# Altium integrated library Motorola Microcontroller 32-Bit.IntLib: 337 symbols (part 21 of 29)
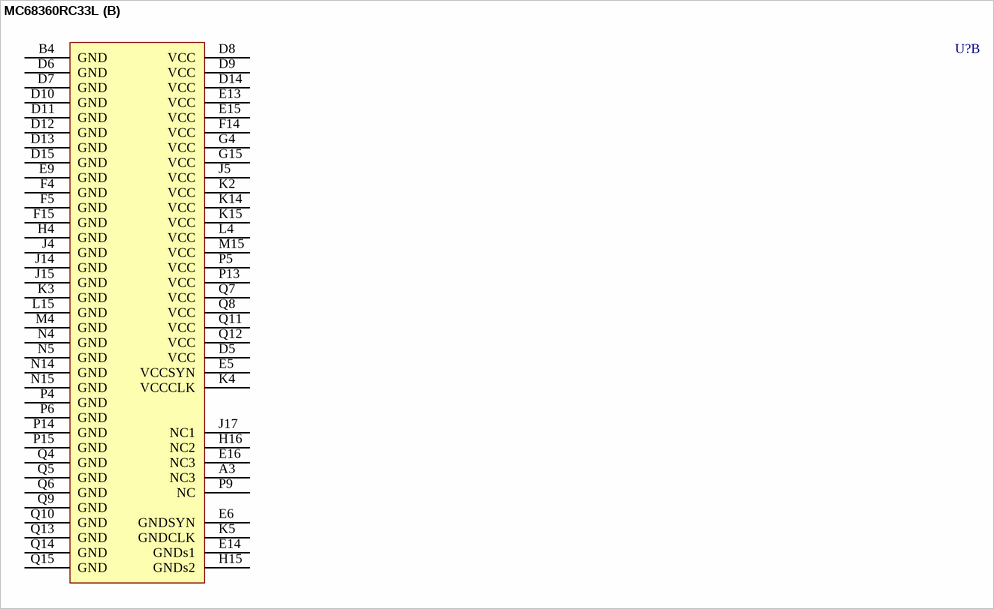
[diagram p259: symbol MC68360RC33L]

## MC68360RC33L
designator U?
Quad Integrated Communication Controller; Published: 21-Mar-2003; LatestRevisionDate: 06-Jun-2005; LatestRevisionNote: Stylized 3D Model Added.; DatasheetVersion: Jan-1995; PackageVersion: Jan-1995; PackageReference: PGA241; Publisher: Altium Limited; PackageDescription: 241-Pin Pin Grid Array 2.54 mm Pitch; ComponentLink1Description: Manufacturer Link; ComponentLink1URL: http://www.freescale.com/; ComponentLink2Description: Datasheet; ComponentLink2URL: http://www.freescale.com/files/32bit/doc/data_sheet/MC68360.pdf
footprint PGA241 (PGA, 241-Leads, Body 47x47mm, Pitch 2.54mm)
3D model MC68360-PGA241 (241-Pin Pin Grid Array 2.54 mm Pitch)
part A pins: A2 XTAL, A4 A26 (io), A5 A24 (io), A6 A21 (io), A7 A18 (io), A8 A15 (io), A9 A12 (io), A10 A11 (io), A11 A9 (io), A12 A6 (io), A13 A3 (io), A14 A2 (io), A15 ~{TRIS}/~{TS} (in), A16 ~{CS}6/~{RAS}6 (io), A17 ~{CS}3/~{RAS}3 (io), A18 ~{CS}0/~{RAS}0 (io), B1 SIZ0 (io), B2 A28/~{WE}3 (io), B3 MODCK0 (in), B5 A25 (io), B6 A22 (io), B7 A19 (io), B8 A16 (io), B9 A13 (io), B10 A10 (io), B11 A7 (io), B12 A5 (io), B13 A1 (io), B14 ~{IRQ}7 (in), B15 ~{CS}5/~{RAS}5 (io), B16 ~{CS}2/~{RAS}2 (io), B17 ~{CAS}2/~{IACK}3 (out), B18 ~{CAS}1/~{IACK}2 (out), C1 SIZ1 (io), C2 A29/~{WE}2 (io), C3 EXTAL (in), C4 MODCK1 (in), C5 A27 (io), C6 A23 (io), C7 A20 (io), C8 A17 (io), C9 A14 (io), C10 A8 (io), C11 A4 (io), C12 A0 (io), C13 ~{CS}7/~{RAS}7/~{IACK}7 (io), C14 ~{CS}4/~{RAS}4 (io), C15 ~{CS}1/~{RAS}1 (io), C16 ~{CAS}3/~{IACK}6 (out), C17 FREEZE/CONFIG2/~{MBARE} (out), C18 ~{DS}/TT1 (io), D1 FC2/TM2 (io), D2 FC1/TM1 (io), D3 A30/~{WE}1 (io), D4 XFC, D16 ~{CAS}0/~{IACK}1 (out), D17 R/~{W} (out), D18 ~{DSACK}0/~{TB}1 (io), E1 D30 (io), E2 FC3/TTO (io), E3 FC0/TM0 (io), E4 A31/~{WE}3 (io), E17 ~{DSACK}1/~{TA} (io), E18 PRTY3/16~{BM} (io), F1 D27 (io), F2 D29 (io), F3 D31 (io), F16 PRTY2/~{IOUT}0/~{RQOUT} (io), F17 PRTY1/~{IOUT}1 (io), F18 PRTY0/~{IOUT}2 (io), G1 D24 (io), G2 D26 (io), G3 D28 (io), G16 ~{IPIPE}0/BADD2/DSO (out), G17 ~{AS} (io), G18 ~{IPIPE}1/~{RAS1DD}/~{BCLRI} (io), H1 D21 (io), H2 D23 (io), H3 D25 (io), H17 ~{BCLRO}/CONFIG1/~{RAS2DD} (io), H18 ~{OE}/AMUX (out), J1 CLKO1 (out), J2 D20 (io), J3 D22 (io), J16 ~{IFETCH}/BADD3/DSI (io), J18 ~{BR} (in), K1 CLKO2 (out), K16 ~{IRQ}4/~{IOUT}1 (io), K17 ~{BGACK}/~{BB} (io), K18 ~{BG} (io), L1 D19 (io), L2 D18 (io), L3 D17 (io), L16 ~{TRST} (in), L17 ~{BKPT}/~{BKPTO}/DSCLK (io), L18 ~{IRQ}6/~{IOUT}2 (io), M1 D16 (io), M2 D15 (io), M3 D14 (io), M16 TDI (in), M17 TCK (in), M18 ~{RESETH} (io), N1 D13 (io), N2 D12 (io), N3 D11 (io), N16 ~{AVEC}/~{IACK}5/~{AVEC}0 (io), N17 TDO (hiz), N18 TMS (in), P1 D10 (io), P2 D9 (io), P3 D8 (io), P16 ~{HALT} (io), P17 ~{RMC}/CONFIG0/~{LOCK} (io), P18 ~{PERR} (out), Q1 D7 (io), Q2 D6 (io), Q3 D5 (io), Q16 ~{IRQ}5 (in), Q17 ~{BERR}/~{TEA} (io), Q18 ~{RESETS} (io), R1 D4 (io), R2 D3 (io), R3 D1 (io), R4 PA14/TIN4/BRGO4/CLK7 (io), R5 PA11/~{TOUT}2/CLK4 (io), R6 PA8/TIN1/L1RCLKA/BRGO1/CLK1 (io), R7 PA4/L1TXDB/RXD3 (io), R8 PA0/RXD1 (io), R9 PB14/L1SR3/~{L1RQB}/~{RTS}3 (io), R10 PB9/~{DACK}2/~{SMSYN}2 (io), R11 PB6/~{DONE}1/SMTXD1 (io), R12 PB3/BRGO4/SPIMISO(SPIRXD) (io), R13 PB0/~{RRJCT}1/~{SPISEL} (io), R14 PC8/~{SDACK}2/L1TSYNCB/~{CTS}3 (io), R15 PC4/~{CTS}1 (io), R16 PC0/L1ST1/~{RTS}1 (io), R17 ~{IRQ}3 (in), R18 ~{IRQ}1/~{IOUT}0/~{RQOUT} (io), S1 D2 (io), S2 D0 (io), S3 PA13/BRGCLK2/L1RCLKB/~{TOUT}3/~{CLK}6 (io), S4 PA10/TIN2/L1TCLKA/BRGO2/CLK3 (io), S5 PA7/L1RXDA/TXD4 (io), S6 PA5/L1RXDB/TXD3 (io), S7 PA1/TXD1 (io), S8 PB16/STRBO/BRGO3 (io), S9 PB13/L1ST2/~{RTS}2 (io), S10 PB10/L1CLKOB/SMTXD2 (io), S11 PB7/~{DONE}2/SMRXD1 (io), S12 PB4/~{DREQ}1/BRGO1 (io), S13 PB1/~{RSTRT}2/SPICLK (io), S14 PC10/~{SDACK}1/L1TSYNCA/~{CTS}4 (io), S15 PC7/~{TGATE}2/~{CD}2 (io), S16 PC3/L1ST4/~{L1RQA}/~{RTS}4 (io), S17 PC1/L1ST2/~{RTS}2 (io), S18 ~{IRQ}2 (in), T1 PA15/L1TCLKB/~{TOUT}4/CLKB (io), T2 PA12/TIN3/BRGO3/CLK5 (io), T3 PA9/BRGCLK1/~{TOUT}1/CLK2 (io), T4 PA6/L1TXDA/RXD4 (io), T5 PA3/TXD2 (io), T6 PA2/RXD2 (io), T7 PB17/STRBI/~{RSTRT}1 (io), T8 PB15/L1ST4/~{L1RQA}/~{RTS}4 (io), T9 PB12/L1ST1/~{RTS}1 (io), T10 PB11/L1CLKOA/SMRXD2 (io), T11 PB8/~{DREQ}2/~{SMSYN}1 (io), T12 PB5/~{DACK}1/BRGO2 (io), T13 PB2/~{RRJCT}2/SPIMOSI(SPITXD) (io), T14 PC11/L1RSYNCA/~{CD}4 (io), T15 PC9/L1RSYNCB/~{CD}3 (io), T16 PC6/~{CTS}2 (io), T17 PC5/~{TGATE}1/~{CD}1 (io), T18 PC2/L1ST3/~{L1RQB}/~{RTS}3 (io)
part B pins: A3 NC3, B4 GND (power), D5 VCC (power), D6 GND (power), D7 GND (power), D8 VCC (power), D9 VCC (power), D10 GND (power), D11 GND (power), D12 GND (power), D13 GND (power), D14 VCC (power), D15 GND (power), E5 VCCSYN (power), E6 GNDSYN (power), E9 GND (power), E13 VCC (power), E14 GNDs1 (power), E15 VCC (power), E16 NC3, F4 GND (power), F5 GND (power), F14 VCC (power), F15 GND (power), G4 VCC (power), G15 VCC (power), H4 GND (power), H15 GNDs2 (power), H16 NC2, J4 GND (power), J5 VCC (power), J14 GND (power), J15 GND (power), J17 NC1, K2 VCC (power), K3 GND (power), K4 VCCCLK (power), K5 GNDCLK (power), K14 VCC (power), K15 VCC (power), L4 VCC (power), L15 GND (power), M4 GND (power), M15 VCC (power), N4 GND (power), N5 GND (power), N14 GND (power), N15 GND (power), P4 GND (power), P5 VCC (power), P6 GND (power), P9 NC, P13 VCC (power), P14 GND (power), P15 GND (power), Q4 GND (power), Q5 GND (power), Q6 GND (power), Q7 VCC (power), Q8 VCC (power), Q9 GND (power), Q10 GND (power), Q11 VCC (power), Q12 VCC (power), Q13 GND (power), Q14 GND (power), Q15 GND (power)

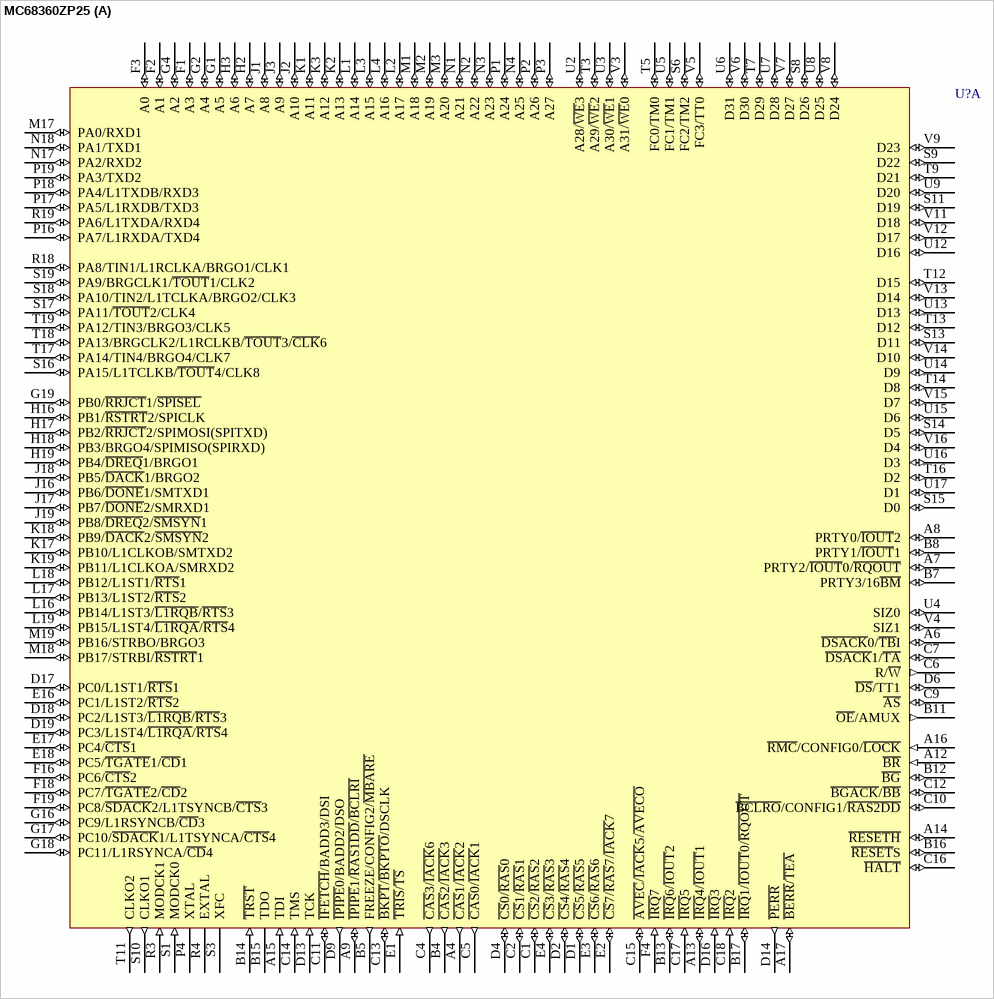
[diagram p175: symbol MC68360ZP25]

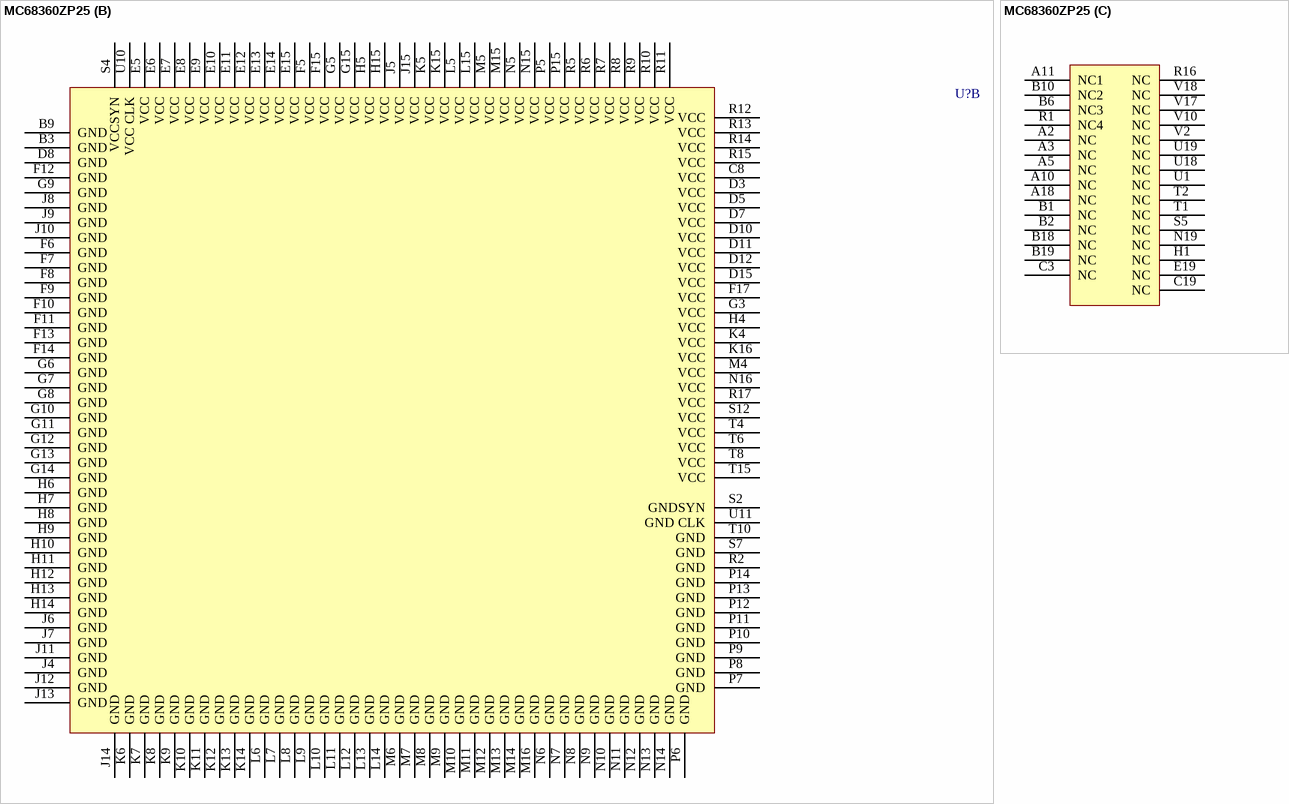
[diagram p176: symbol MC68360ZP25]

## MC68360ZP25
designator U?
Quad Integrated Communication Controller; Note: Footprint departs from the JEDEC JC-11 standard. The letter 's' is used to mark one of the rows.; Published: 21-Mar-2003; LatestRevisionDate: 13-Apr-2006; LatestRevisionNote: IPC-7351 Footprint Added.; DatasheetVersion: Jan-1995; PackageVersion: Sep-2002; PackageReference: 1103-01A; Publisher: Altium Limited; PackageDescription: 357-Ball Ball Grid Array 1.27 mm Pitch; ComponentLink1Description: Manufacturer Link; ComponentLink1URL: http://www.freescale.com/; ComponentLink2Description: Datasheet; ComponentLink2URL: http://www.freescale.com/files/32bit/doc/data_sheet/MC68360.pdf
footprint 1103-01 (BGA, 357-Leads, Body 25x25mm, Pitch 1.27mm)
3D model MC68360-1103-01 (357-Ball Ball Grid Array 1.27 mm Pitch)
part A pins: A4 ~{CAS}1/~{IACK}2 (out), A6 ~{DSACK}0/~{TB}I (io), A7 PRTY2/~{IOUT}0/~{RQOUT} (io), A8 PRTY0/~{IOUT}2 (io), A9 ~{IPIPE}1/~{RAS1DD}/~{BCLRI} (io), A12 ~{BR} (in), A13 ~{IRQ}4/~{IOUT}1 (io), A14 ~{RESETH} (io), A15 TDI (in), A16 ~{RMC}/CONFIG0/~{LOCK} (in), A17 ~{BERR}/~{TEA} (io), B4 ~{CAS}2/~{IACK}3 (out), B5 FREEZE/CONFIG2/~{MBARE} (out), B7 PRTY3/16~{BM} (io), B8 PRTY1/~{IOUT}1 (io), B11 ~{OE}/AMUX (out), B12 ~{BG} (io), B13 ~{IRQ}6/~{IOUT}2 (io), B14 ~{TRST} (in), B15 TDO (hiz), B16 ~{RESET}S (io), B17 ~{IRQ}1/~{IOUT}0/~{RQOUT} (io), C1 ~{CS}2/~{RAS}2 (io), C2 ~{CS}1/~{RAS}1 (io), C4 ~{CAS}3/~{IACK}6 (out), C5 ~{CAS}0/~{IACK}1 (out), C6 R/~{W} (out), C7 ~{DSACK}1/~{TA} (io), C9 ~{AS} (io), C10 ~{BCLRO}/CONFIG1/~{RAS2DD} (io), C11 ~{IFETCH}/BADD3/DSI (io), C12 ~{BGACK}/~{BB} (io), C13 ~{BKPT}/~{BKPTO}/DSCLK (io), C14 TMS (in), C15 ~{AVEC}/~{IACK}5/~{AVECO} (io), C16 ~{HALT} (io), C17 ~{IRQ}5 (in), C18 ~{IRQ}2 (in), D1 ~{CS}5/~{RAS}5 (io), D2 ~{CS}4/~{RAS}4 (io), D4 ~{CS}0/~{RAS}0 (io), D6 ~{DS}/TT1 (io), D9 ~{IPIPE}0/BADD2/DSO (out), D13 TCK (in), D14 ~{PERR} (out), D16 ~{IRQ}3 (in), D17 PC0/L1ST1/~{RTS}1 (io), D18 PC2/L1ST3/~{L1RQB}/~{RTS}3 (io), D19 PC3/L1ST4/~{L1RQA}/~{RTS}4 (io), E1 ~{TRIS}/~{TS} (in), E2 ~{CS}7/~{RAS}7/~{IACK}7 (io), E3 ~{CS}6/~{RAS}6 (io), E4 ~{CS}3/~{RAS}3 (io), E16 PC1/L1ST2/~{RTS}2 (io), E17 PC4/~{CTS}1 (io), E18 PC5/~{TGATE}1/~{CD}1 (io), F1 A3 (io), F2 A1 (io), F3 A0 (io), F4 ~{IRQ}7 (in), F16 PC6/~{CTS}2 (io), F18 PC7/~{TGATE}2/~{CD}2 (io), F19 PC8/~{SDACK}2/L1TSYNCB/~{CTS}3 (io), G1 A5 (io), G2 A4 (io), G4 A2 (io), G16 PC9/L1RSYNCB/~{CD}3 (io), G17 PC10/~{SDACK}1/L1TSYNCA/~{CTS}4 (io), G18 PC11/L1RSYNCA/~{CD}4 (io), G19 PB0/~{RRJCT}1/~{SPISEL} (io), H2 A7 (io), H3 A6 (io), H16 PB1/~{RSTRT}2/SPICLK (io), H17 PB2/~{RRJCT}2/SPIMOSI(SPITXD) (io), H18 PB3/BRGO4/SPIMISO(SPIRXD) (io), H19 PB4/~{DREQ}1/BRGO1 (io), J1 A8 (io), J2 A10 (io), J3 A9 (io), J16 PB6/~{DONE}1/SMTXD1 (io), J17 PB7/~{DONE}2/SMRXD1 (io), J18 PB5/~{DACK}1/BRGO2 (io), J19 PB8/~{DREQ}2/~{SMSYN}1 (io), K1 A11 (io), K2 A13 (io), K3 A12 (io), K17 PB10/L1CLKOB/SMTXD2 (io), K18 PB9/~{DACK}2/~{SMSYN}2 (io), K19 PB11/L1CLKOA/SMRXD2 (io), L1 A14 (io), L2 A17 (io), L3 A15 (io), L4 A16 (io), L16 PB14/L1ST3/~{L1RQB}/~{RTS}3 (io), L17 PB13/L1ST2/~{RTS}2 (io), L18 PB12/L1ST1/~{RTS}1 (io), L19 PB15/L1ST4/~{L1RQA}/~{RTS}4 (io), M1 A18 (io), M2 A19 (io), M3 A20 (io), M17 PA0/RXD1 (io), M18 PB17/STRBI/~{RSTRT}1 (io), M19 PB16/STRBO/BRGO3 (io), N1 A21 (io), N2 A22 (io), N3 A23 (io), N4 A25 (io), N17 PA2/RXD2 (io), N18 PA1/TXD1 (io), P1 A24 (io), P2 A26 (io), P3 A27 (io), P4 XTAL, P16 PA7/L1RXDA/TXD4 (io), P17 PA5/L1RXDB/TXD3 (io), P18 PA4/L1TXDB/RXD3 (io), P19 PA3/TXD2 (io), R3 MODCK1 (in), R4 EXTAL, R18 PA8/TIN1/L1RCLKA/BRGO1/CLK1 (io), R19 PA6/L1TXDA/RXD4 (io), S1 MODCK0 (in), S3 XFC, S6 FC2/TM2 (io), S8 D26 (io), S9 D22 (io), S10 CLKO1 (out), S11 D19 (io), S13 D11 (io), S14 D5 (io), S15 D0 (io), S16 PA15/L1TCLKB/~{TOUT}4/CLK8 (io), S17 PA11/~{TOUT}2/CLK4 (io), S18 PA10/TIN2/L1TCLKA/BRGO2/CLK3 (io), S19 PA9/BRGCLK1/~{TOUT}1/CLK2 (io), T3 A29/~{WE}2 (io), T5 FC0/TM0 (io), T7 D29 (io), T9 D21 (io), T11 CLKO2 (out), T12 D15 (io), T13 D12 (io), T14 D8 (io), T16 D2 (io), T17 PA14/TIN4/BRGO4/CLK7 (io), T18 PA13/BRGCLK2/L1RCLKB/~{TOUT}3/~{CLK}6 (io), T19 PA12/TIN3/BRGO3/CLK5 (io), U2 A28/~{WE}3 (io), U3 A30/~{WE}1 (io), U4 SIZ0 (io), U5 FC1/TM1 (io), U6 D31 (io), U7 D28 (io), U8 D25 (io), U9 D20 (io), U12 D16 (io), U13 D13 (io), U14 D9 (io), U15 D6 (io), U16 D3 (io), U17 D1 (io), V3 A31/~{WE}0 (io), V4 SIZ1 (io), V5 FC3/TT0 (io), V6 D30 (io), V7 D27 (io), V8 D24 (io), V9 D23 (io), V11 D18 (io), V12 D17 (io), V13 D14 (io), V14 D10 (io), V15 D7 (io), V16 D4 (io)
part B pins: B3 GND (power), B9 GND (power), C8 VCC (power), D3 VCC (power), D5 VCC (power), D7 VCC (power), D8 GND (power), D10 VCC (power), D11 VCC (power), D12 VCC (power), D15 VCC (power), E5 VCC (power), E6 VCC (power), E7 VCC (power), E8 VCC (power), E9 VCC (power), E10 VCC (power), E11 VCC (power), E12 VCC (power), E13 VCC (power), E14 VCC (power), E15 VCC (power), F5 VCC (power), F6 GND (power), F7 GND (power), F8 GND (power), F9 GND (power), F10 GND (power), F11 GND (power), F12 GND (power), F13 GND (power), F14 GND (power), F15 VCC (power), F17 VCC (power), G3 VCC (power), G5 VCC (power), G6 GND (power), G7 GND (power), G8 GND (power), G9 GND (power), G10 GND (power), G11 GND (power), G12 GND (power), G13 GND (power), G14 GND (power), G15 VCC (power), H4 VCC (power), H5 VCC (power), H6 GND (power), H7 GND (power), H8 GND (power), H9 GND (power), H10 GND (power), H11 GND (power), H12 GND (power), H13 GND (power), H14 GND (power), H15 VCC (power), J4 GND (power), J5 VCC (power), J6 GND (power), J7 GND (power), J8 GND (power), J9 GND (power), J10 GND (power), J11 GND (power), J12 GND (power), J13 GND (power), J14 GND (power), J15 VCC (power), K4 VCC (power), K5 VCC (power), K6 GND (power), K7 GND (power), K8 GND (power), K9 GND (power), K10 GND (power), K11 GND (power), K12 GND (power), K13 GND (power), K14 GND (power), K15 VCC (power), K16 VCC (power), L5 VCC (power), L6 GND (power), L7 GND (power), L8 GND (power), L9 GND (power), L10 GND (power), L11 GND (power), L12 GND (power), L13 GND (power), L14 GND (power), L15 VCC (power), M4 VCC (power), M5 VCC (power), M6 GND (power), M7 GND (power), M8 GND (power), M9 GND (power), M10 GND (power), M11 GND (power), M12 GND (power), M13 GND (power), M14 GND (power), M15 VCC (power), M16 GND (power), N5 VCC (power), N6 GND (power), N7 GND (power), N8 GND (power), N9 GND (power), N10 GND (power), N11 GND (power), N12 GND (power), N13 GND (power), N14 GND (power), N15 VCC (power), N16 VCC (power), P5 VCC (power), P6 GND (power), P7 GND (power), P8 GND (power), P9 GND (power), P10 GND (power), P11 GND (power), P12 GND (power), P13 GND (power), P14 GND (power), P15 VCC (power), R2 GND (power), R5 VCC (power), R6 VCC (power), R7 VCC (power), R8 VCC (power), R9 VCC (power), R10 VCC (power), R11 VCC (power), R12 VCC (power), R13 VCC (power), R14 VCC (power), R15 VCC (power), R17 VCC (power), S2 GNDSYN (power), S4 VCCSYN (power), S7 GND (power), S12 VCC (power), T4 VCC (power), T6 VCC (power), T8 VCC (power), T10 GND (power), T15 VCC (power), U10 VCC CLK (power), U11 GND CLK (power)
part C pins: A2 NC, A3 NC, A5 NC, A10 NC, A11 NC1, A18 NC, B1 NC, B2 NC, B6 NC3, B10 NC2, B18 NC, B19 NC, C3 NC, C19 NC, E19 NC, H1 NC, N19 NC, R1 NC4, R16 NC, S5 NC, T1 NC, T2 NC, U1 NC, U18 NC, U19 NC, V2 NC, V10 NC, V17 NC, V18 NC

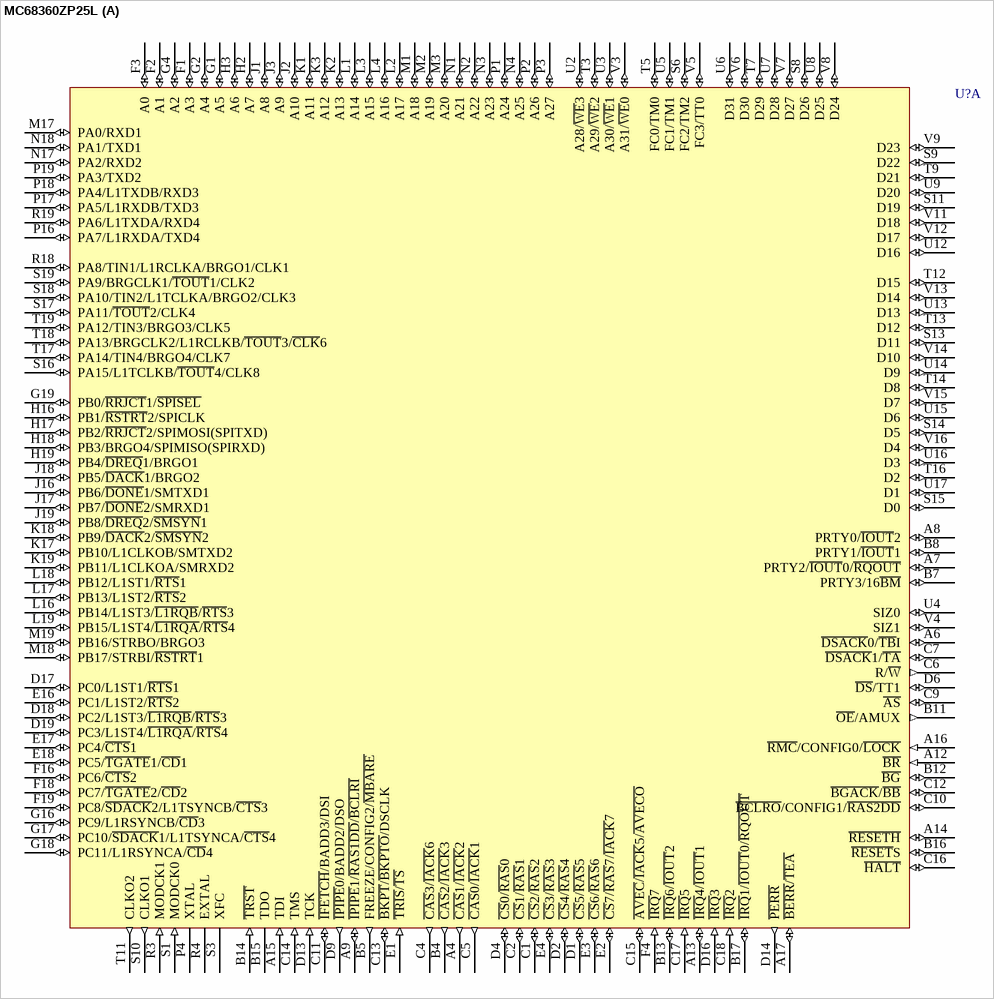
[diagram p177: symbol MC68360ZP25L]

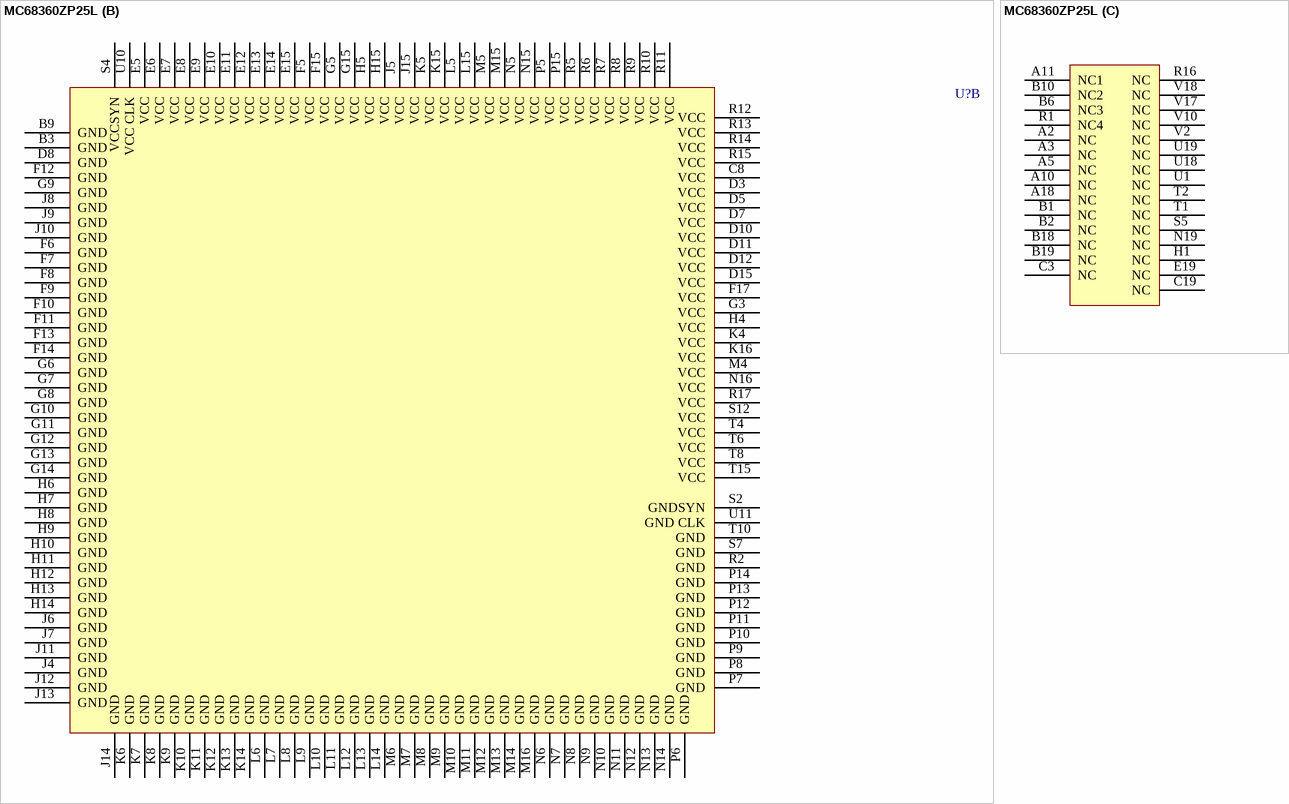
[diagram p178: symbol MC68360ZP25L]

## MC68360ZP25L
designator U?
Quad Integrated Communication Controller; Note: Footprint departs from the JEDEC JC-11 standard. The letter 's' is used to mark one of the rows.; Published: 21-Mar-2003; LatestRevisionDate: 13-Apr-2006; LatestRevisionNote: IPC-7351 Footprint Added.; DatasheetVersion: Jan-1995; PackageVersion: Sep-2002; PackageReference: 1103-01A; Publisher: Altium Limited; PackageDescription: 357-Ball Ball Grid Array 1.27 mm Pitch; ComponentLink1Description: Manufacturer Link; ComponentLink1URL: http://www.freescale.com/; ComponentLink2Description: Datasheet; ComponentLink2URL: http://www.freescale.com/files/32bit/doc/data_sheet/MC68360.pdf
footprint 1103-01 (BGA, 357-Leads, Body 25x25mm, Pitch 1.27mm)
3D model MC68360-1103-01 (357-Ball Ball Grid Array 1.27 mm Pitch)
part A pins: A4 ~{CAS}1/~{IACK}2 (out), A6 ~{DSACK}0/~{TB}I (io), A7 PRTY2/~{IOUT}0/~{RQOUT} (io), A8 PRTY0/~{IOUT}2 (io), A9 ~{IPIPE}1/~{RAS1DD}/~{BCLRI} (io), A12 ~{BR} (in), A13 ~{IRQ}4/~{IOUT}1 (io), A14 ~{RESETH} (io), A15 TDI (in), A16 ~{RMC}/CONFIG0/~{LOCK} (in), A17 ~{BERR}/~{TEA} (io), B4 ~{CAS}2/~{IACK}3 (out), B5 FREEZE/CONFIG2/~{MBARE} (out), B7 PRTY3/16~{BM} (io), B8 PRTY1/~{IOUT}1 (io), B11 ~{OE}/AMUX (out), B12 ~{BG} (io), B13 ~{IRQ}6/~{IOUT}2 (io), B14 ~{TRST} (in), B15 TDO (hiz), B16 ~{RESET}S (io), B17 ~{IRQ}1/~{IOUT}0/~{RQOUT} (io), C1 ~{CS}2/~{RAS}2 (io), C2 ~{CS}1/~{RAS}1 (io), C4 ~{CAS}3/~{IACK}6 (out), C5 ~{CAS}0/~{IACK}1 (out), C6 R/~{W} (out), C7 ~{DSACK}1/~{TA} (io), C9 ~{AS} (io), C10 ~{BCLRO}/CONFIG1/~{RAS2DD} (io), C11 ~{IFETCH}/BADD3/DSI (io), C12 ~{BGACK}/~{BB} (io), C13 ~{BKPT}/~{BKPTO}/DSCLK (io), C14 TMS (in), C15 ~{AVEC}/~{IACK}5/~{AVECO} (io), C16 ~{HALT} (io), C17 ~{IRQ}5 (in), C18 ~{IRQ}2 (in), D1 ~{CS}5/~{RAS}5 (io), D2 ~{CS}4/~{RAS}4 (io), D4 ~{CS}0/~{RAS}0 (io), D6 ~{DS}/TT1 (io), D9 ~{IPIPE}0/BADD2/DSO (out), D13 TCK (in), D14 ~{PERR} (out), D16 ~{IRQ}3 (in), D17 PC0/L1ST1/~{RTS}1 (io), D18 PC2/L1ST3/~{L1RQB}/~{RTS}3 (io), D19 PC3/L1ST4/~{L1RQA}/~{RTS}4 (io), E1 ~{TRIS}/~{TS} (in), E2 ~{CS}7/~{RAS}7/~{IACK}7 (io), E3 ~{CS}6/~{RAS}6 (io), E4 ~{CS}3/~{RAS}3 (io), E16 PC1/L1ST2/~{RTS}2 (io), E17 PC4/~{CTS}1 (io), E18 PC5/~{TGATE}1/~{CD}1 (io), F1 A3 (io), F2 A1 (io), F3 A0 (io), F4 ~{IRQ}7 (in), F16 PC6/~{CTS}2 (io), F18 PC7/~{TGATE}2/~{CD}2 (io), F19 PC8/~{SDACK}2/L1TSYNCB/~{CTS}3 (io), G1 A5 (io), G2 A4 (io), G4 A2 (io), G16 PC9/L1RSYNCB/~{CD}3 (io), G17 PC10/~{SDACK}1/L1TSYNCA/~{CTS}4 (io), G18 PC11/L1RSYNCA/~{CD}4 (io), G19 PB0/~{RRJCT}1/~{SPISEL} (io), H2 A7 (io), H3 A6 (io), H16 PB1/~{RSTRT}2/SPICLK (io), H17 PB2/~{RRJCT}2/SPIMOSI(SPITXD) (io), H18 PB3/BRGO4/SPIMISO(SPIRXD) (io), H19 PB4/~{DREQ}1/BRGO1 (io), J1 A8 (io), J2 A10 (io), J3 A9 (io), J16 PB6/~{DONE}1/SMTXD1 (io), J17 PB7/~{DONE}2/SMRXD1 (io), J18 PB5/~{DACK}1/BRGO2 (io), J19 PB8/~{DREQ}2/~{SMSYN}1 (io), K1 A11 (io), K2 A13 (io), K3 A12 (io), K17 PB10/L1CLKOB/SMTXD2 (io), K18 PB9/~{DACK}2/~{SMSYN}2 (io), K19 PB11/L1CLKOA/SMRXD2 (io), L1 A14 (io), L2 A17 (io), L3 A15 (io), L4 A16 (io), L16 PB14/L1ST3/~{L1RQB}/~{RTS}3 (io), L17 PB13/L1ST2/~{RTS}2 (io), L18 PB12/L1ST1/~{RTS}1 (io), L19 PB15/L1ST4/~{L1RQA}/~{RTS}4 (io), M1 A18 (io), M2 A19 (io), M3 A20 (io), M17 PA0/RXD1 (io), M18 PB17/STRBI/~{RSTRT}1 (io), M19 PB16/STRBO/BRGO3 (io), N1 A21 (io), N2 A22 (io), N3 A23 (io), N4 A25 (io), N17 PA2/RXD2 (io), N18 PA1/TXD1 (io), P1 A24 (io), P2 A26 (io), P3 A27 (io), P4 XTAL, P16 PA7/L1RXDA/TXD4 (io), P17 PA5/L1RXDB/TXD3 (io), P18 PA4/L1TXDB/RXD3 (io), P19 PA3/TXD2 (io), R3 MODCK1 (in), R4 EXTAL, R18 PA8/TIN1/L1RCLKA/BRGO1/CLK1 (io), R19 PA6/L1TXDA/RXD4 (io), S1 MODCK0 (in), S3 XFC, S6 FC2/TM2 (io), S8 D26 (io), S9 D22 (io), S10 CLKO1 (out), S11 D19 (io), S13 D11 (io), S14 D5 (io), S15 D0 (io), S16 PA15/L1TCLKB/~{TOUT}4/CLK8 (io), S17 PA11/~{TOUT}2/CLK4 (io), S18 PA10/TIN2/L1TCLKA/BRGO2/CLK3 (io), S19 PA9/BRGCLK1/~{TOUT}1/CLK2 (io), T3 A29/~{WE}2 (io), T5 FC0/TM0 (io), T7 D29 (io), T9 D21 (io), T11 CLKO2 (out), T12 D15 (io), T13 D12 (io), T14 D8 (io), T16 D2 (io), T17 PA14/TIN4/BRGO4/CLK7 (io), T18 PA13/BRGCLK2/L1RCLKB/~{TOUT}3/~{CLK}6 (io), T19 PA12/TIN3/BRGO3/CLK5 (io), U2 A28/~{WE}3 (io), U3 A30/~{WE}1 (io), U4 SIZ0 (io), U5 FC1/TM1 (io), U6 D31 (io), U7 D28 (io), U8 D25 (io), U9 D20 (io), U12 D16 (io), U13 D13 (io), U14 D9 (io), U15 D6 (io), U16 D3 (io), U17 D1 (io), V3 A31/~{WE}0 (io), V4 SIZ1 (io), V5 FC3/TT0 (io), V6 D30 (io), V7 D27 (io), V8 D24 (io), V9 D23 (io), V11 D18 (io), V12 D17 (io), V13 D14 (io), V14 D10 (io), V15 D7 (io), V16 D4 (io)
part B pins: B3 GND (power), B9 GND (power), C8 VCC (power), D3 VCC (power), D5 VCC (power), D7 VCC (power), D8 GND (power), D10 VCC (power), D11 VCC (power), D12 VCC (power), D15 VCC (power), E5 VCC (power), E6 VCC (power), E7 VCC (power), E8 VCC (power), E9 VCC (power), E10 VCC (power), E11 VCC (power), E12 VCC (power), E13 VCC (power), E14 VCC (power), E15 VCC (power), F5 VCC (power), F6 GND (power), F7 GND (power), F8 GND (power), F9 GND (power), F10 GND (power), F11 GND (power), F12 GND (power), F13 GND (power), F14 GND (power), F15 VCC (power), F17 VCC (power), G3 VCC (power), G5 VCC (power), G6 GND (power), G7 GND (power), G8 GND (power), G9 GND (power), G10 GND (power), G11 GND (power), G12 GND (power), G13 GND (power), G14 GND (power), G15 VCC (power), H4 VCC (power), H5 VCC (power), H6 GND (power), H7 GND (power), H8 GND (power), H9 GND (power), H10 GND (power), H11 GND (power), H12 GND (power), H13 GND (power), H14 GND (power), H15 VCC (power), J4 GND (power), J5 VCC (power), J6 GND (power), J7 GND (power), J8 GND (power), J9 GND (power), J10 GND (power), J11 GND (power), J12 GND (power), J13 GND (power), J14 GND (power), J15 VCC (power), K4 VCC (power), K5 VCC (power), K6 GND (power), K7 GND (power), K8 GND (power), K9 GND (power), K10 GND (power), K11 GND (power), K12 GND (power), K13 GND (power), K14 GND (power), K15 VCC (power), K16 VCC (power), L5 VCC (power), L6 GND (power), L7 GND (power), L8 GND (power), L9 GND (power), L10 GND (power), L11 GND (power), L12 GND (power), L13 GND (power), L14 GND (power), L15 VCC (power), M4 VCC (power), M5 VCC (power), M6 GND (power), M7 GND (power), M8 GND (power), M9 GND (power), M10 GND (power), M11 GND (power), M12 GND (power), M13 GND (power), M14 GND (power), M15 VCC (power), M16 GND (power), N5 VCC (power), N6 GND (power), N7 GND (power), N8 GND (power), N9 GND (power), N10 GND (power), N11 GND (power), N12 GND (power), N13 GND (power), N14 GND (power), N15 VCC (power), N16 VCC (power), P5 VCC (power), P6 GND (power), P7 GND (power), P8 GND (power), P9 GND (power), P10 GND (power), P11 GND (power), P12 GND (power), P13 GND (power), P14 GND (power), P15 VCC (power), R2 GND (power), R5 VCC (power), R6 VCC (power), R7 VCC (power), R8 VCC (power), R9 VCC (power), R10 VCC (power), R11 VCC (power), R12 VCC (power), R13 VCC (power), R14 VCC (power), R15 VCC (power), R17 VCC (power), S2 GNDSYN (power), S4 VCCSYN (power), S7 GND (power), S12 VCC (power), T4 VCC (power), T6 VCC (power), T8 VCC (power), T10 GND (power), T15 VCC (power), U10 VCC CLK (power), U11 GND CLK (power)
part C pins: A2 NC, A3 NC, A5 NC, A10 NC, A11 NC1, A18 NC, B1 NC, B2 NC, B6 NC3, B10 NC2, B18 NC, B19 NC, C3 NC, C19 NC, E19 NC, H1 NC, N19 NC, R1 NC4, R16 NC, S5 NC, T1 NC, T2 NC, U1 NC, U18 NC, U19 NC, V2 NC, V10 NC, V17 NC, V18 NC

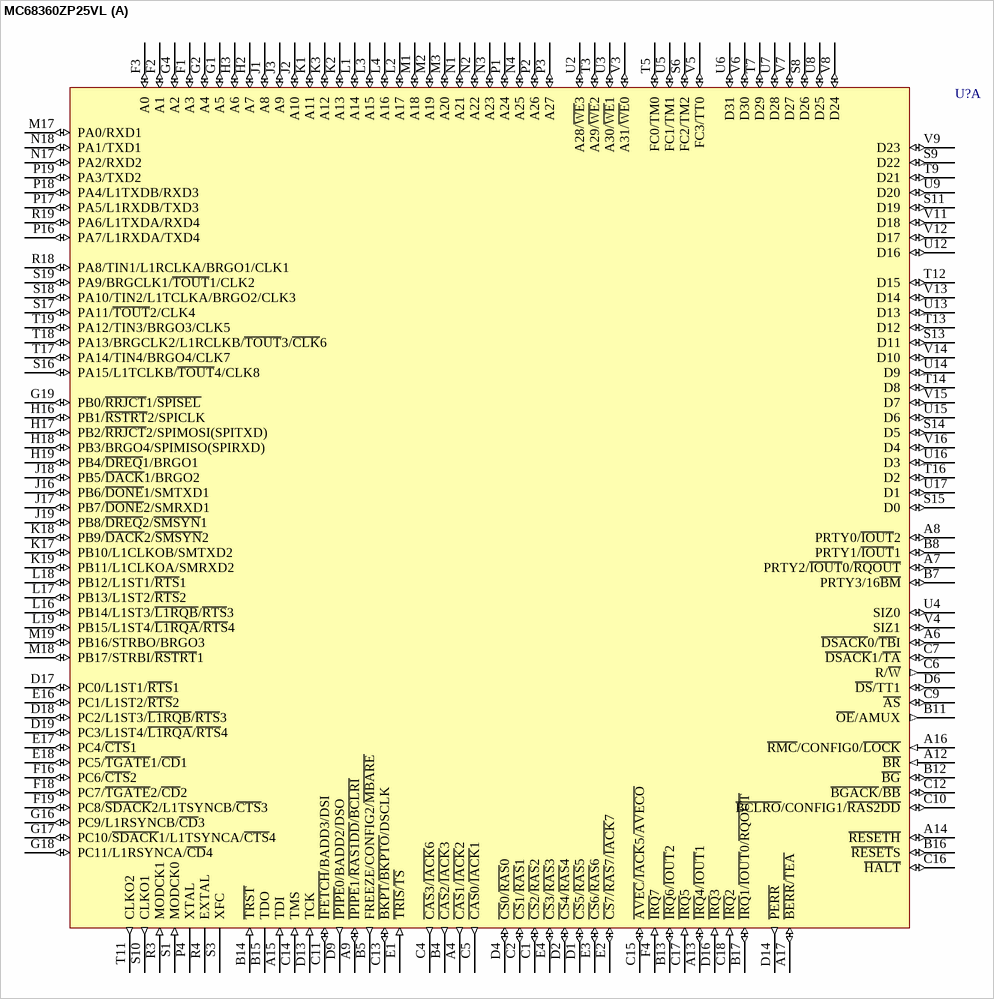
[diagram p179: symbol MC68360ZP25VL]

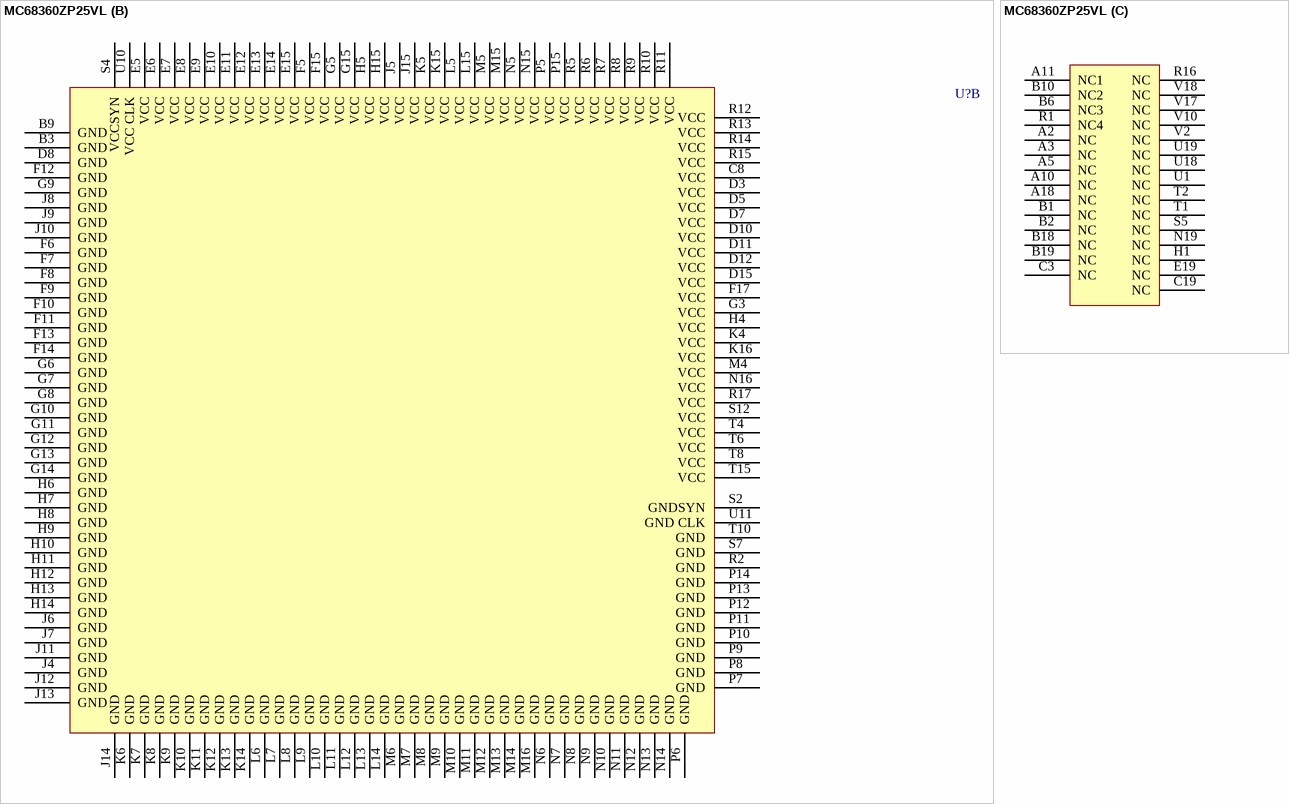
[diagram p180: symbol MC68360ZP25VL]

## MC68360ZP25VL
designator U?
Quad Integrated Communication Controller; Note: Footprint departs from the JEDEC JC-11 standard. The letter 's' is used to mark one of the rows.; Published: 21-Mar-2003; LatestRevisionDate: 13-Apr-2006; LatestRevisionNote: IPC-7351 Footprint Added.; DatasheetVersion: Jan-1995; PackageVersion: Sep-2002; PackageReference: 1103-01A; Publisher: Altium Limited; PackageDescription: 357-Ball Ball Grid Array 1.27 mm Pitch; ComponentLink1Description: Manufacturer Link; ComponentLink1URL: http://www.freescale.com/; ComponentLink2Description: Datasheet; ComponentLink2URL: http://www.freescale.com/files/32bit/doc/data_sheet/MC68360.pdf
footprint 1103-01 (BGA, 357-Leads, Body 25x25mm, Pitch 1.27mm)
3D model MC68360-1103-01 (357-Ball Ball Grid Array 1.27 mm Pitch)
part A pins: A4 ~{CAS}1/~{IACK}2 (out), A6 ~{DSACK}0/~{TB}I (io), A7 PRTY2/~{IOUT}0/~{RQOUT} (io), A8 PRTY0/~{IOUT}2 (io), A9 ~{IPIPE}1/~{RAS1DD}/~{BCLRI} (io), A12 ~{BR} (in), A13 ~{IRQ}4/~{IOUT}1 (io), A14 ~{RESETH} (io), A15 TDI (in), A16 ~{RMC}/CONFIG0/~{LOCK} (in), A17 ~{BERR}/~{TEA} (io), B4 ~{CAS}2/~{IACK}3 (out), B5 FREEZE/CONFIG2/~{MBARE} (out), B7 PRTY3/16~{BM} (io), B8 PRTY1/~{IOUT}1 (io), B11 ~{OE}/AMUX (out), B12 ~{BG} (io), B13 ~{IRQ}6/~{IOUT}2 (io), B14 ~{TRST} (in), B15 TDO (hiz), B16 ~{RESET}S (io), B17 ~{IRQ}1/~{IOUT}0/~{RQOUT} (io), C1 ~{CS}2/~{RAS}2 (io), C2 ~{CS}1/~{RAS}1 (io), C4 ~{CAS}3/~{IACK}6 (out), C5 ~{CAS}0/~{IACK}1 (out), C6 R/~{W} (out), C7 ~{DSACK}1/~{TA} (io), C9 ~{AS} (io), C10 ~{BCLRO}/CONFIG1/~{RAS2DD} (io), C11 ~{IFETCH}/BADD3/DSI (io), C12 ~{BGACK}/~{BB} (io), C13 ~{BKPT}/~{BKPTO}/DSCLK (io), C14 TMS (in), C15 ~{AVEC}/~{IACK}5/~{AVECO} (io), C16 ~{HALT} (io), C17 ~{IRQ}5 (in), C18 ~{IRQ}2 (in), D1 ~{CS}5/~{RAS}5 (io), D2 ~{CS}4/~{RAS}4 (io), D4 ~{CS}0/~{RAS}0 (io), D6 ~{DS}/TT1 (io), D9 ~{IPIPE}0/BADD2/DSO (out), D13 TCK (in), D14 ~{PERR} (out), D16 ~{IRQ}3 (in), D17 PC0/L1ST1/~{RTS}1 (io), D18 PC2/L1ST3/~{L1RQB}/~{RTS}3 (io), D19 PC3/L1ST4/~{L1RQA}/~{RTS}4 (io), E1 ~{TRIS}/~{TS} (in), E2 ~{CS}7/~{RAS}7/~{IACK}7 (io), E3 ~{CS}6/~{RAS}6 (io), E4 ~{CS}3/~{RAS}3 (io), E16 PC1/L1ST2/~{RTS}2 (io), E17 PC4/~{CTS}1 (io), E18 PC5/~{TGATE}1/~{CD}1 (io), F1 A3 (io), F2 A1 (io), F3 A0 (io), F4 ~{IRQ}7 (in), F16 PC6/~{CTS}2 (io), F18 PC7/~{TGATE}2/~{CD}2 (io), F19 PC8/~{SDACK}2/L1TSYNCB/~{CTS}3 (io), G1 A5 (io), G2 A4 (io), G4 A2 (io), G16 PC9/L1RSYNCB/~{CD}3 (io), G17 PC10/~{SDACK}1/L1TSYNCA/~{CTS}4 (io), G18 PC11/L1RSYNCA/~{CD}4 (io), G19 PB0/~{RRJCT}1/~{SPISEL} (io), H2 A7 (io), H3 A6 (io), H16 PB1/~{RSTRT}2/SPICLK (io), H17 PB2/~{RRJCT}2/SPIMOSI(SPITXD) (io), H18 PB3/BRGO4/SPIMISO(SPIRXD) (io), H19 PB4/~{DREQ}1/BRGO1 (io), J1 A8 (io), J2 A10 (io), J3 A9 (io), J16 PB6/~{DONE}1/SMTXD1 (io), J17 PB7/~{DONE}2/SMRXD1 (io), J18 PB5/~{DACK}1/BRGO2 (io), J19 PB8/~{DREQ}2/~{SMSYN}1 (io), K1 A11 (io), K2 A13 (io), K3 A12 (io), K17 PB10/L1CLKOB/SMTXD2 (io), K18 PB9/~{DACK}2/~{SMSYN}2 (io), K19 PB11/L1CLKOA/SMRXD2 (io), L1 A14 (io), L2 A17 (io), L3 A15 (io), L4 A16 (io), L16 PB14/L1ST3/~{L1RQB}/~{RTS}3 (io), L17 PB13/L1ST2/~{RTS}2 (io), L18 PB12/L1ST1/~{RTS}1 (io), L19 PB15/L1ST4/~{L1RQA}/~{RTS}4 (io), M1 A18 (io), M2 A19 (io), M3 A20 (io), M17 PA0/RXD1 (io), M18 PB17/STRBI/~{RSTRT}1 (io), M19 PB16/STRBO/BRGO3 (io), N1 A21 (io), N2 A22 (io), N3 A23 (io), N4 A25 (io), N17 PA2/RXD2 (io), N18 PA1/TXD1 (io), P1 A24 (io), P2 A26 (io), P3 A27 (io), P4 XTAL, P16 PA7/L1RXDA/TXD4 (io), P17 PA5/L1RXDB/TXD3 (io), P18 PA4/L1TXDB/RXD3 (io), P19 PA3/TXD2 (io), R3 MODCK1 (in), R4 EXTAL, R18 PA8/TIN1/L1RCLKA/BRGO1/CLK1 (io), R19 PA6/L1TXDA/RXD4 (io), S1 MODCK0 (in), S3 XFC, S6 FC2/TM2 (io), S8 D26 (io), S9 D22 (io), S10 CLKO1 (out), S11 D19 (io), S13 D11 (io), S14 D5 (io), S15 D0 (io), S16 PA15/L1TCLKB/~{TOUT}4/CLK8 (io), S17 PA11/~{TOUT}2/CLK4 (io), S18 PA10/TIN2/L1TCLKA/BRGO2/CLK3 (io), S19 PA9/BRGCLK1/~{TOUT}1/CLK2 (io), T3 A29/~{WE}2 (io), T5 FC0/TM0 (io), T7 D29 (io), T9 D21 (io), T11 CLKO2 (out), T12 D15 (io), T13 D12 (io), T14 D8 (io), T16 D2 (io), T17 PA14/TIN4/BRGO4/CLK7 (io), T18 PA13/BRGCLK2/L1RCLKB/~{TOUT}3/~{CLK}6 (io), T19 PA12/TIN3/BRGO3/CLK5 (io), U2 A28/~{WE}3 (io), U3 A30/~{WE}1 (io), U4 SIZ0 (io), U5 FC1/TM1 (io), U6 D31 (io), U7 D28 (io), U8 D25 (io), U9 D20 (io), U12 D16 (io), U13 D13 (io), U14 D9 (io), U15 D6 (io), U16 D3 (io), U17 D1 (io), V3 A31/~{WE}0 (io), V4 SIZ1 (io), V5 FC3/TT0 (io), V6 D30 (io), V7 D27 (io), V8 D24 (io), V9 D23 (io), V11 D18 (io), V12 D17 (io), V13 D14 (io), V14 D10 (io), V15 D7 (io), V16 D4 (io)
part B pins: B3 GND (power), B9 GND (power), C8 VCC (power), D3 VCC (power), D5 VCC (power), D7 VCC (power), D8 GND (power), D10 VCC (power), D11 VCC (power), D12 VCC (power), D15 VCC (power), E5 VCC (power), E6 VCC (power), E7 VCC (power), E8 VCC (power), E9 VCC (power), E10 VCC (power), E11 VCC (power), E12 VCC (power), E13 VCC (power), E14 VCC (power), E15 VCC (power), F5 VCC (power), F6 GND (power), F7 GND (power), F8 GND (power), F9 GND (power), F10 GND (power), F11 GND (power), F12 GND (power), F13 GND (power), F14 GND (power), F15 VCC (power), F17 VCC (power), G3 VCC (power), G5 VCC (power), G6 GND (power), G7 GND (power), G8 GND (power), G9 GND (power), G10 GND (power), G11 GND (power), G12 GND (power), G13 GND (power), G14 GND (power), G15 VCC (power), H4 VCC (power), H5 VCC (power), H6 GND (power), H7 GND (power), H8 GND (power), H9 GND (power), H10 GND (power), H11 GND (power), H12 GND (power), H13 GND (power), H14 GND (power), H15 VCC (power), J4 GND (power), J5 VCC (power), J6 GND (power), J7 GND (power), J8 GND (power), J9 GND (power), J10 GND (power), J11 GND (power), J12 GND (power), J13 GND (power), J14 GND (power), J15 VCC (power), K4 VCC (power), K5 VCC (power), K6 GND (power), K7 GND (power), K8 GND (power), K9 GND (power), K10 GND (power), K11 GND (power), K12 GND (power), K13 GND (power), K14 GND (power), K15 VCC (power), K16 VCC (power), L5 VCC (power), L6 GND (power), L7 GND (power), L8 GND (power), L9 GND (power), L10 GND (power), L11 GND (power), L12 GND (power), L13 GND (power), L14 GND (power), L15 VCC (power), M4 VCC (power), M5 VCC (power), M6 GND (power), M7 GND (power), M8 GND (power), M9 GND (power), M10 GND (power), M11 GND (power), M12 GND (power), M13 GND (power), M14 GND (power), M15 VCC (power), M16 GND (power), N5 VCC (power), N6 GND (power), N7 GND (power), N8 GND (power), N9 GND (power), N10 GND (power), N11 GND (power), N12 GND (power), N13 GND (power), N14 GND (power), N15 VCC (power), N16 VCC (power), P5 VCC (power), P6 GND (power), P7 GND (power), P8 GND (power), P9 GND (power), P10 GND (power), P11 GND (power), P12 GND (power), P13 GND (power), P14 GND (power), P15 VCC (power), R2 GND (power), R5 VCC (power), R6 VCC (power), R7 VCC (power), R8 VCC (power), R9 VCC (power), R10 VCC (power), R11 VCC (power), R12 VCC (power), R13 VCC (power), R14 VCC (power), R15 VCC (power), R17 VCC (power), S2 GNDSYN (power), S4 VCCSYN (power), S7 GND (power), S12 VCC (power), T4 VCC (power), T6 VCC (power), T8 VCC (power), T10 GND (power), T15 VCC (power), U10 VCC CLK (power), U11 GND CLK (power)
part C pins: A2 NC, A3 NC, A5 NC, A10 NC, A11 NC1, A18 NC, B1 NC, B2 NC, B6 NC3, B10 NC2, B18 NC, B19 NC, C3 NC, C19 NC, E19 NC, H1 NC, N19 NC, R1 NC4, R16 NC, S5 NC, T1 NC, T2 NC, U1 NC, U18 NC, U19 NC, V2 NC, V10 NC, V17 NC, V18 NC

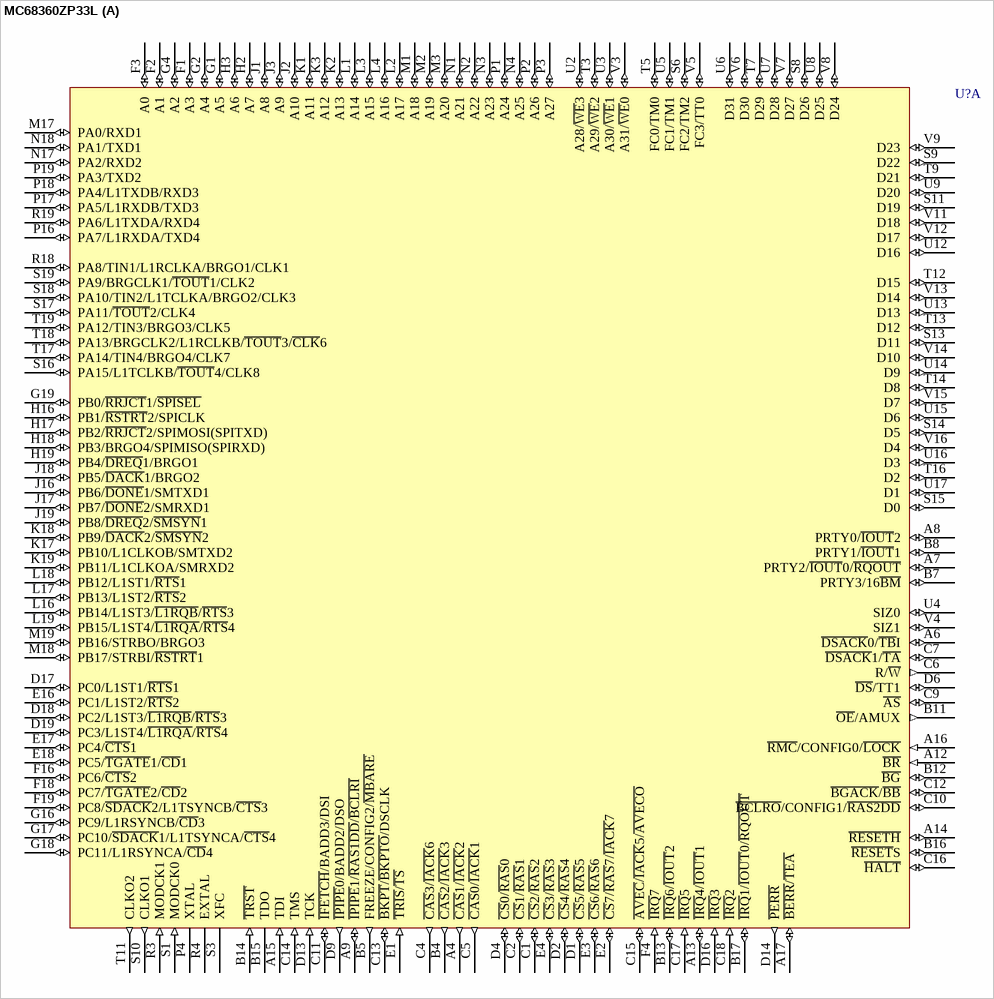
[diagram p181: symbol MC68360ZP33L]

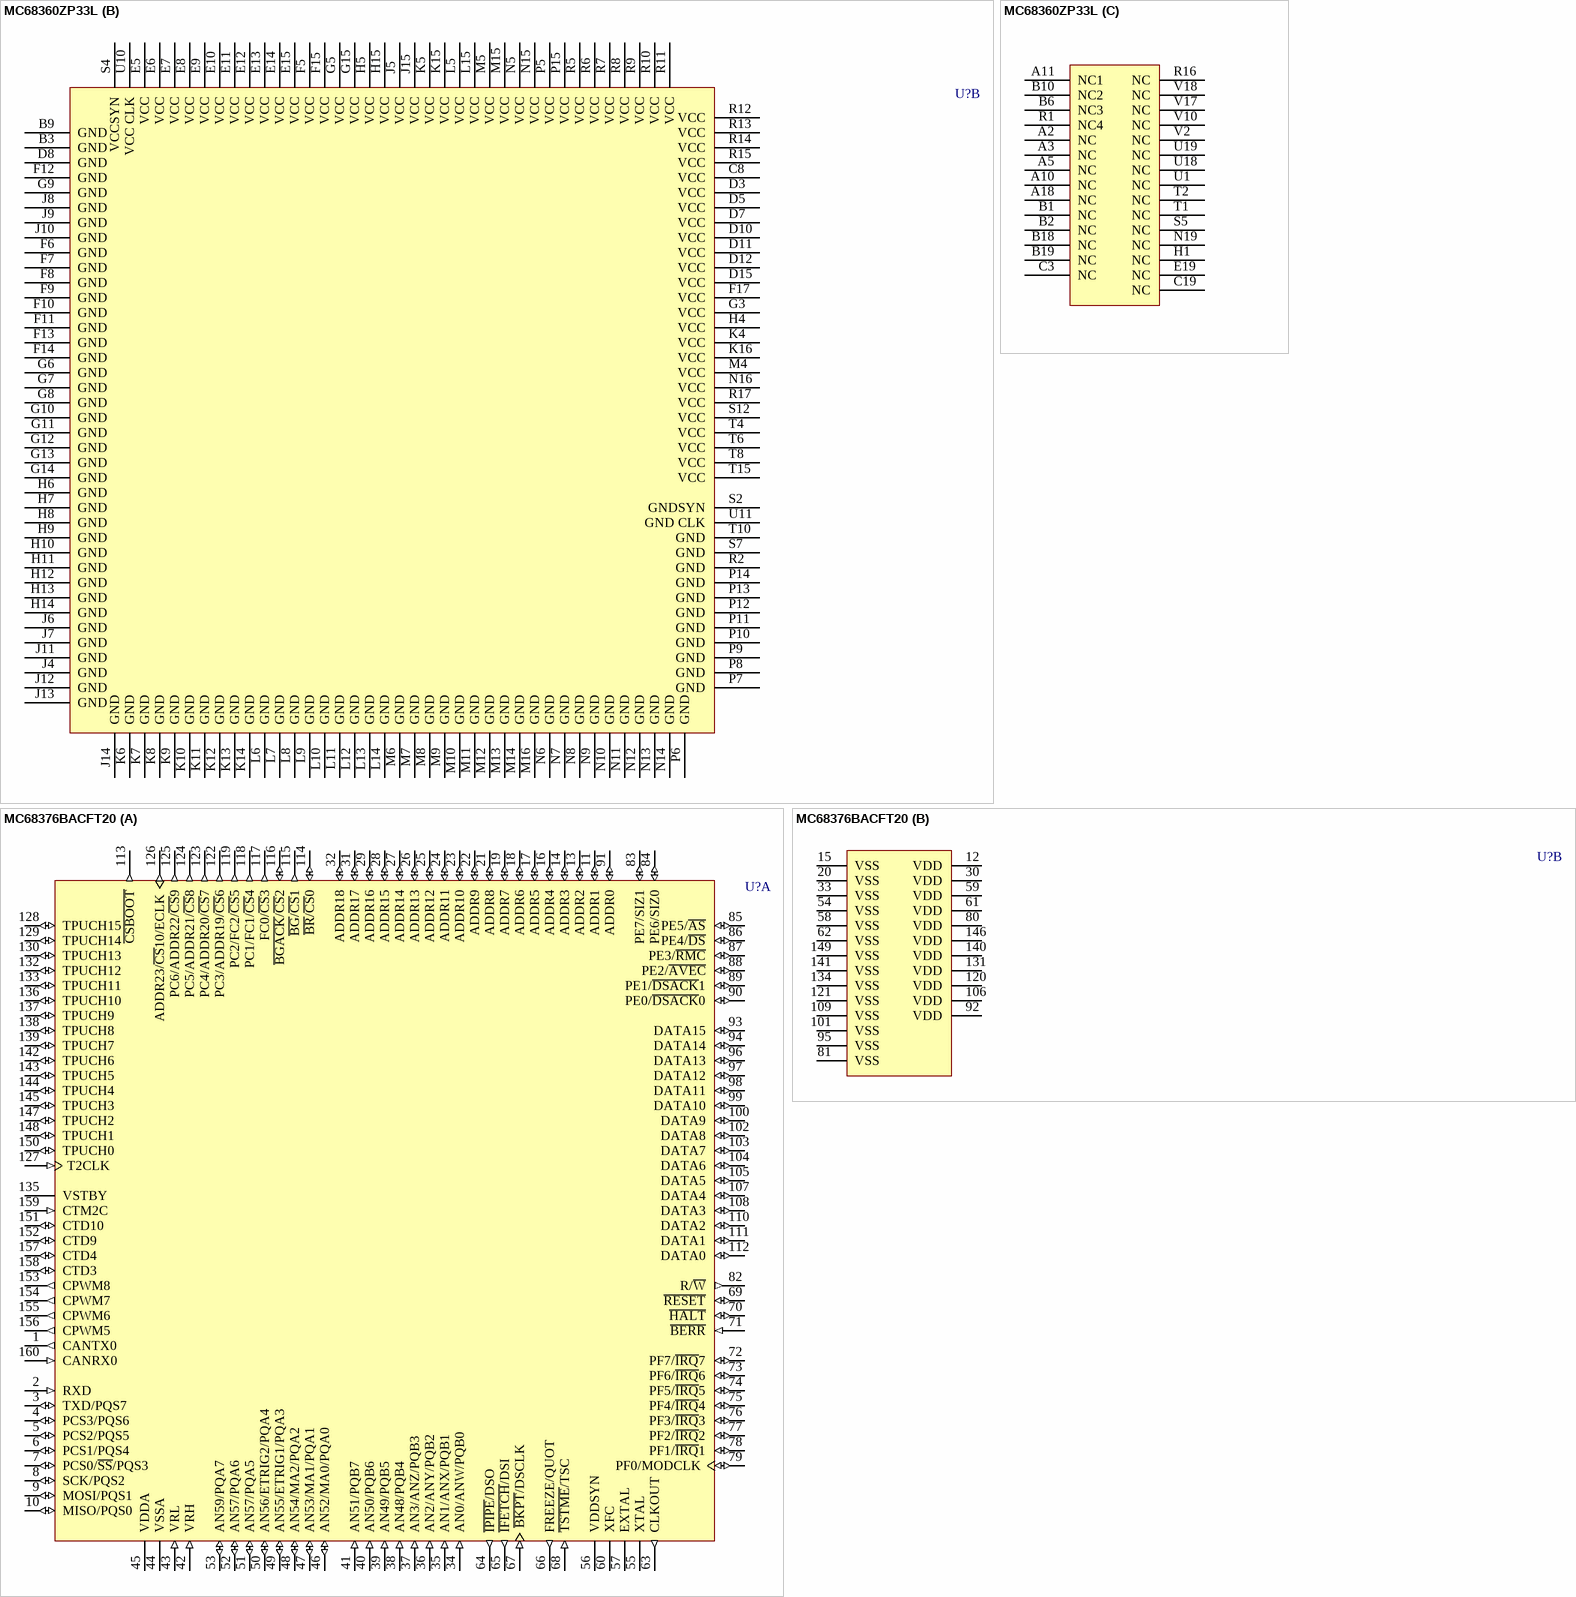
[diagram p182: symbols MC68360ZP33L to MC68376BACFT20]

## MC68360ZP33L
designator U?
Quad Integrated Communication Controller; Note: Footprint departs from the JEDEC JC-11 standard. The letter 's' is used to mark one of the rows.; Published: 21-Mar-2003; LatestRevisionDate: 13-Apr-2006; LatestRevisionNote: IPC-7351 Footprint Added.; DatasheetVersion: Jan-1995; PackageVersion: Sep-2002; PackageReference: 1103-01A; Publisher: Altium Limited; PackageDescription: 357-Ball Ball Grid Array 1.27 mm Pitch; ComponentLink1Description: Manufacturer Link; ComponentLink1URL: http://www.freescale.com/; ComponentLink2Description: Datasheet; ComponentLink2URL: http://www.freescale.com/files/32bit/doc/data_sheet/MC68360.pdf
footprint 1103-01 (BGA, 357-Leads, Body 25x25mm, Pitch 1.27mm)
3D model MC68360-1103-01 (357-Ball Ball Grid Array 1.27 mm Pitch)
part A pins: A4 ~{CAS}1/~{IACK}2 (out), A6 ~{DSACK}0/~{TB}I (io), A7 PRTY2/~{IOUT}0/~{RQOUT} (io), A8 PRTY0/~{IOUT}2 (io), A9 ~{IPIPE}1/~{RAS1DD}/~{BCLRI} (io), A12 ~{BR} (in), A13 ~{IRQ}4/~{IOUT}1 (io), A14 ~{RESETH} (io), A15 TDI (in), A16 ~{RMC}/CONFIG0/~{LOCK} (in), A17 ~{BERR}/~{TEA} (io), B4 ~{CAS}2/~{IACK}3 (out), B5 FREEZE/CONFIG2/~{MBARE} (out), B7 PRTY3/16~{BM} (io), B8 PRTY1/~{IOUT}1 (io), B11 ~{OE}/AMUX (out), B12 ~{BG} (io), B13 ~{IRQ}6/~{IOUT}2 (io), B14 ~{TRST} (in), B15 TDO (hiz), B16 ~{RESET}S (io), B17 ~{IRQ}1/~{IOUT}0/~{RQOUT} (io), C1 ~{CS}2/~{RAS}2 (io), C2 ~{CS}1/~{RAS}1 (io), C4 ~{CAS}3/~{IACK}6 (out), C5 ~{CAS}0/~{IACK}1 (out), C6 R/~{W} (out), C7 ~{DSACK}1/~{TA} (io), C9 ~{AS} (io), C10 ~{BCLRO}/CONFIG1/~{RAS2DD} (io), C11 ~{IFETCH}/BADD3/DSI (io), C12 ~{BGACK}/~{BB} (io), C13 ~{BKPT}/~{BKPTO}/DSCLK (io), C14 TMS (in), C15 ~{AVEC}/~{IACK}5/~{AVECO} (io), C16 ~{HALT} (io), C17 ~{IRQ}5 (in), C18 ~{IRQ}2 (in), D1 ~{CS}5/~{RAS}5 (io), D2 ~{CS}4/~{RAS}4 (io), D4 ~{CS}0/~{RAS}0 (io), D6 ~{DS}/TT1 (io), D9 ~{IPIPE}0/BADD2/DSO (out), D13 TCK (in), D14 ~{PERR} (out), D16 ~{IRQ}3 (in), D17 PC0/L1ST1/~{RTS}1 (io), D18 PC2/L1ST3/~{L1RQB}/~{RTS}3 (io), D19 PC3/L1ST4/~{L1RQA}/~{RTS}4 (io), E1 ~{TRIS}/~{TS} (in), E2 ~{CS}7/~{RAS}7/~{IACK}7 (io), E3 ~{CS}6/~{RAS}6 (io), E4 ~{CS}3/~{RAS}3 (io), E16 PC1/L1ST2/~{RTS}2 (io), E17 PC4/~{CTS}1 (io), E18 PC5/~{TGATE}1/~{CD}1 (io), F1 A3 (io), F2 A1 (io), F3 A0 (io), F4 ~{IRQ}7 (in), F16 PC6/~{CTS}2 (io), F18 PC7/~{TGATE}2/~{CD}2 (io), F19 PC8/~{SDACK}2/L1TSYNCB/~{CTS}3 (io), G1 A5 (io), G2 A4 (io), G4 A2 (io), G16 PC9/L1RSYNCB/~{CD}3 (io), G17 PC10/~{SDACK}1/L1TSYNCA/~{CTS}4 (io), G18 PC11/L1RSYNCA/~{CD}4 (io), G19 PB0/~{RRJCT}1/~{SPISEL} (io), H2 A7 (io), H3 A6 (io), H16 PB1/~{RSTRT}2/SPICLK (io), H17 PB2/~{RRJCT}2/SPIMOSI(SPITXD) (io), H18 PB3/BRGO4/SPIMISO(SPIRXD) (io), H19 PB4/~{DREQ}1/BRGO1 (io), J1 A8 (io), J2 A10 (io), J3 A9 (io), J16 PB6/~{DONE}1/SMTXD1 (io), J17 PB7/~{DONE}2/SMRXD1 (io), J18 PB5/~{DACK}1/BRGO2 (io), J19 PB8/~{DREQ}2/~{SMSYN}1 (io), K1 A11 (io), K2 A13 (io), K3 A12 (io), K17 PB10/L1CLKOB/SMTXD2 (io), K18 PB9/~{DACK}2/~{SMSYN}2 (io), K19 PB11/L1CLKOA/SMRXD2 (io), L1 A14 (io), L2 A17 (io), L3 A15 (io), L4 A16 (io), L16 PB14/L1ST3/~{L1RQB}/~{RTS}3 (io), L17 PB13/L1ST2/~{RTS}2 (io), L18 PB12/L1ST1/~{RTS}1 (io), L19 PB15/L1ST4/~{L1RQA}/~{RTS}4 (io), M1 A18 (io), M2 A19 (io), M3 A20 (io), M17 PA0/RXD1 (io), M18 PB17/STRBI/~{RSTRT}1 (io), M19 PB16/STRBO/BRGO3 (io), N1 A21 (io), N2 A22 (io), N3 A23 (io), N4 A25 (io), N17 PA2/RXD2 (io), N18 PA1/TXD1 (io), P1 A24 (io), P2 A26 (io), P3 A27 (io), P4 XTAL, P16 PA7/L1RXDA/TXD4 (io), P17 PA5/L1RXDB/TXD3 (io), P18 PA4/L1TXDB/RXD3 (io), P19 PA3/TXD2 (io), R3 MODCK1 (in), R4 EXTAL, R18 PA8/TIN1/L1RCLKA/BRGO1/CLK1 (io), R19 PA6/L1TXDA/RXD4 (io), S1 MODCK0 (in), S3 XFC, S6 FC2/TM2 (io), S8 D26 (io), S9 D22 (io), S10 CLKO1 (out), S11 D19 (io), S13 D11 (io), S14 D5 (io), S15 D0 (io), S16 PA15/L1TCLKB/~{TOUT}4/CLK8 (io), S17 PA11/~{TOUT}2/CLK4 (io), S18 PA10/TIN2/L1TCLKA/BRGO2/CLK3 (io), S19 PA9/BRGCLK1/~{TOUT}1/CLK2 (io), T3 A29/~{WE}2 (io), T5 FC0/TM0 (io), T7 D29 (io), T9 D21 (io), T11 CLKO2 (out), T12 D15 (io), T13 D12 (io), T14 D8 (io), T16 D2 (io), T17 PA14/TIN4/BRGO4/CLK7 (io), T18 PA13/BRGCLK2/L1RCLKB/~{TOUT}3/~{CLK}6 (io), T19 PA12/TIN3/BRGO3/CLK5 (io), U2 A28/~{WE}3 (io), U3 A30/~{WE}1 (io), U4 SIZ0 (io), U5 FC1/TM1 (io), U6 D31 (io), U7 D28 (io), U8 D25 (io), U9 D20 (io), U12 D16 (io), U13 D13 (io), U14 D9 (io), U15 D6 (io), U16 D3 (io), U17 D1 (io), V3 A31/~{WE}0 (io), V4 SIZ1 (io), V5 FC3/TT0 (io), V6 D30 (io), V7 D27 (io), V8 D24 (io), V9 D23 (io), V11 D18 (io), V12 D17 (io), V13 D14 (io), V14 D10 (io), V15 D7 (io), V16 D4 (io)
part B pins: B3 GND (power), B9 GND (power), C8 VCC (power), D3 VCC (power), D5 VCC (power), D7 VCC (power), D8 GND (power), D10 VCC (power), D11 VCC (power), D12 VCC (power), D15 VCC (power), E5 VCC (power), E6 VCC (power), E7 VCC (power), E8 VCC (power), E9 VCC (power), E10 VCC (power), E11 VCC (power), E12 VCC (power), E13 VCC (power), E14 VCC (power), E15 VCC (power), F5 VCC (power), F6 GND (power), F7 GND (power), F8 GND (power), F9 GND (power), F10 GND (power), F11 GND (power), F12 GND (power), F13 GND (power), F14 GND (power), F15 VCC (power), F17 VCC (power), G3 VCC (power), G5 VCC (power), G6 GND (power), G7 GND (power), G8 GND (power), G9 GND (power), G10 GND (power), G11 GND (power), G12 GND (power), G13 GND (power), G14 GND (power), G15 VCC (power), H4 VCC (power), H5 VCC (power), H6 GND (power), H7 GND (power), H8 GND (power), H9 GND (power), H10 GND (power), H11 GND (power), H12 GND (power), H13 GND (power), H14 GND (power), H15 VCC (power), J4 GND (power), J5 VCC (power), J6 GND (power), J7 GND (power), J8 GND (power), J9 GND (power), J10 GND (power), J11 GND (power), J12 GND (power), J13 GND (power), J14 GND (power), J15 VCC (power), K4 VCC (power), K5 VCC (power), K6 GND (power), K7 GND (power), K8 GND (power), K9 GND (power), K10 GND (power), K11 GND (power), K12 GND (power), K13 GND (power), K14 GND (power), K15 VCC (power), K16 VCC (power), L5 VCC (power), L6 GND (power), L7 GND (power), L8 GND (power), L9 GND (power), L10 GND (power), L11 GND (power), L12 GND (power), L13 GND (power), L14 GND (power), L15 VCC (power), M4 VCC (power), M5 VCC (power), M6 GND (power), M7 GND (power), M8 GND (power), M9 GND (power), M10 GND (power), M11 GND (power), M12 GND (power), M13 GND (power), M14 GND (power), M15 VCC (power), M16 GND (power), N5 VCC (power), N6 GND (power), N7 GND (power), N8 GND (power), N9 GND (power), N10 GND (power), N11 GND (power), N12 GND (power), N13 GND (power), N14 GND (power), N15 VCC (power), N16 VCC (power), P5 VCC (power), P6 GND (power), P7 GND (power), P8 GND (power), P9 GND (power), P10 GND (power), P11 GND (power), P12 GND (power), P13 GND (power), P14 GND (power), P15 VCC (power), R2 GND (power), R5 VCC (power), R6 VCC (power), R7 VCC (power), R8 VCC (power), R9 VCC (power), R10 VCC (power), R11 VCC (power), R12 VCC (power), R13 VCC (power), R14 VCC (power), R15 VCC (power), R17 VCC (power), S2 GNDSYN (power), S4 VCCSYN (power), S7 GND (power), S12 VCC (power), T4 VCC (power), T6 VCC (power), T8 VCC (power), T10 GND (power), T15 VCC (power), U10 VCC CLK (power), U11 GND CLK (power)
part C pins: A2 NC, A3 NC, A5 NC, A10 NC, A11 NC1, A18 NC, B1 NC, B2 NC, B6 NC3, B10 NC2, B18 NC, B19 NC, C3 NC, C19 NC, E19 NC, H1 NC, N19 NC, R1 NC4, R16 NC, S5 NC, T1 NC, T2 NC, U1 NC, U18 NC, U19 NC, V2 NC, V10 NC, V17 NC, V18 NC

## MC68376BACFT20
designator U?
32-Bit Microcontroller; Published: 21-Mar-2003; LatestRevisionDate: 13-Apr-2006; LatestRevisionNote: IPC-7351 Footprint Added.; DatasheetVersion: 15-Oct-2000; PackageVersion: 1996; PackageReference: 864A-03; Publisher: Altium Limited; PackageDescription: 160-Pin Plastic Quad Flat Pack 0.65 mm Pitch; Code_IPC: QFP65P3120X3120-160; ComponentLink1Description: Manufacturer Link; ComponentLink1URL: http://www.freescale.com/; ComponentLink2Description: Datasheet; ComponentLink2URL: http://www.freescale.com/files/microcontrollers/doc/data_sheet/MC683336_376UM_ZIP.zip
footprint 864A-03_N (QFP, 160-Leads, Body 28 x 28mm, Pitch 0.65mm, IPC Medium Density)
footprint 864A-03_L (QFP, 160-Leads, Body 28 x 28mm, Pitch 0.65mm, IPC High Density)
footprint 864A-03_M (QFP, 160-Leads, Body 28 x 28mm, Pitch 0.65mm, IPC Low Density)
3D model MC68376-864A-03 (160-Pin Plastic Quad Flat Pack 0.65 mm Pitch)
part A pins: 1 CANTX0 (out), 2 RXD (in), 3 TXD/PQS7 (io), 4 PCS3/PQS6 (io), 5 PCS2/PQS5 (io), 6 PCS1/PQS4 (io), 7 PCS0/~{SS}/PQS3 (io), 8 SCK/PQS2 (io), 9 MOSI/PQS1 (io), 10 MISO/PQS0 (io), 11 ADDR1 (io), 13 ADDR2 (io), 14 ADDR3 (io), 16 ADDR4 (io), 17 ADDR5 (io), 18 ADDR6 (io), 19 ADDR7 (io), 21 ADDR8 (io), 22 ADDR9 (io), 23 ADDR10 (io), 24 ADDR11 (io), 25 ADDR12 (io), 26 ADDR13 (io), 27 ADDR14 (io), 28 ADDR15 (io), 29 ADDR16 (io), 31 ADDR17 (io), 32 ADDR18 (io), 34 AN0/ANW/PQB0 (in), 35 AN1/ANX/PQB1 (in), 36 AN2/ANY/PQB2 (in), 37 AN3/ANZ/PQB3 (in), 38 AN48/PQB4 (in), 39 AN49/PQB5 (in), 40 AN50/PQB6 (in), 41 AN51/PQB7 (in), 42 VRH (in), 43 VRL (in), 44 VSSA (power), 45 VDDA (power), 46 AN52/MA0/PQA0 (io), 47 AN53/MA1/PQA1 (io), 48 AN54/MA2/PQA2 (io), 49 AN55/ETRIG1/PQA3 (io), 50 AN56/ETRIG2/PQA4 (io), 51 AN57/PQA5 (io), 52 AN57/PQA6 (io), 53 AN59/PQA7 (io), 55 XTAL, 56 VDDSYN (power), 57 EXTAL, 60 XFC, 63 CLKOUT (out), 64 ~{IPIPE}/DSO (out), 65 ~{IFETCH}/DSI (out), 66 FREEZE/QUOT (out), 67 ~{BKPT}/DSCLK (in), 68 ~{TSTME}/TSC (in), 69 ~{RESET} (io), 70 ~{HALT} (io), 71 ~{BERR} (in), 72 PF7/~{IRQ}7 (io), 73 PF6/~{IRQ}6 (io), 74 PF5/~{IRQ}5 (io), 75 PF4/~{IRQ}4 (io), 76 PF3/~{IRQ}3 (io), 77 PF2/~{IRQ}2 (io), 78 PF1/~{IRQ}1 (io), 79 PF0/MODCLK (io), 82 R/~{W} (out), 83 PE7/SIZ1 (io), 84 PE6/SIZ0 (io), 85 PE5/~{AS} (io), 86 PE4/~{DS} (io), 87 PE3/~{RMC} (io), 88 PE2/~{AVEC} (io), 89 PE1/~{DSACK}1 (io), 90 PE0/~{DSACK}0 (io), 91 ADDR0 (io), 93 DATA15 (io), 94 DATA14 (io), 96 DATA13 (io), 97 DATA12 (io), 98 DATA11 (io), 99 DATA10 (io), 100 DATA9 (io), 102 DATA8 (io), 103 DATA7 (io), 104 DATA6 (io), 105 DATA5 (io), 107 DATA4 (io), 108 DATA3 (io), 110 DATA2 (io), 111 DATA1 (io), 112 DATA0 (io), 113 ~{CSBOOT} (out), 114 ~{BR}/~{CS}0 (io), 115 ~{BG}/~{CS}1 (out), 116 ~{BGACK}/~{CS}2 (io), 117 FC0/~{CS}3 (out), 118 PC1/FC1/~{CS}4 (out), 119 PC2/FC2/~{CS}5 (out), 122 PC3/ADDR19/~{CS}6 (out), 123 PC4/ADDR20/~{CS}7 (out), 124 PC5/ADDR21/~{CS}8 (out), 125 PC6/ADDR22/~{CS}9 (out), 126 ADDR23/~{CS}10/ECLK (out), 127 T2CLK (in), 128 TPUCH15 (io), 129 TPUCH14 (io), 130 TPUCH13 (io), 132 TPUCH12 (io), 133 TPUCH11 (io), 135 VSTBY (power), 136 TPUCH10 (io), 137 TPUCH9 (io), 138 TPUCH8 (io), 139 TPUCH7 (io), 142 TPUCH6 (io), 143 TPUCH5 (io), 144 TPUCH4 (io), 145 TPUCH3 (io), 147 TPUCH2 (io), 148 TPUCH1 (io), 150 TPUCH0 (io), 151 CTD10 (io), 152 CTD9 (io), 153 CPWM8 (out), 154 CPWM7 (out), 155 CPWM6 (out), 156 CPWM5 (out), 157 CTD4 (io), 158 CTD3 (io), 159 CTM2C (in), 160 CANRX0 (in)
part B pins: 12 VDD (power), 15 VSS (power), 20 VSS (power), 30 VDD (power), 33 VSS (power), 54 VSS (power), 58 VSS (power), 59 VDD (power), 61 VDD (power), 62 VSS (power), 80 VDD (power), 81 VSS (power), 92 VDD (power), 95 VSS (power), 101 VSS (power), 106 VDD (power), 109 VSS (power), 120 VDD (power), 121 VSS (power), 131 VDD (power), 134 VSS (power), 140 VDD (power), 141 VSS (power), 146 VDD (power), 149 VSS (power)

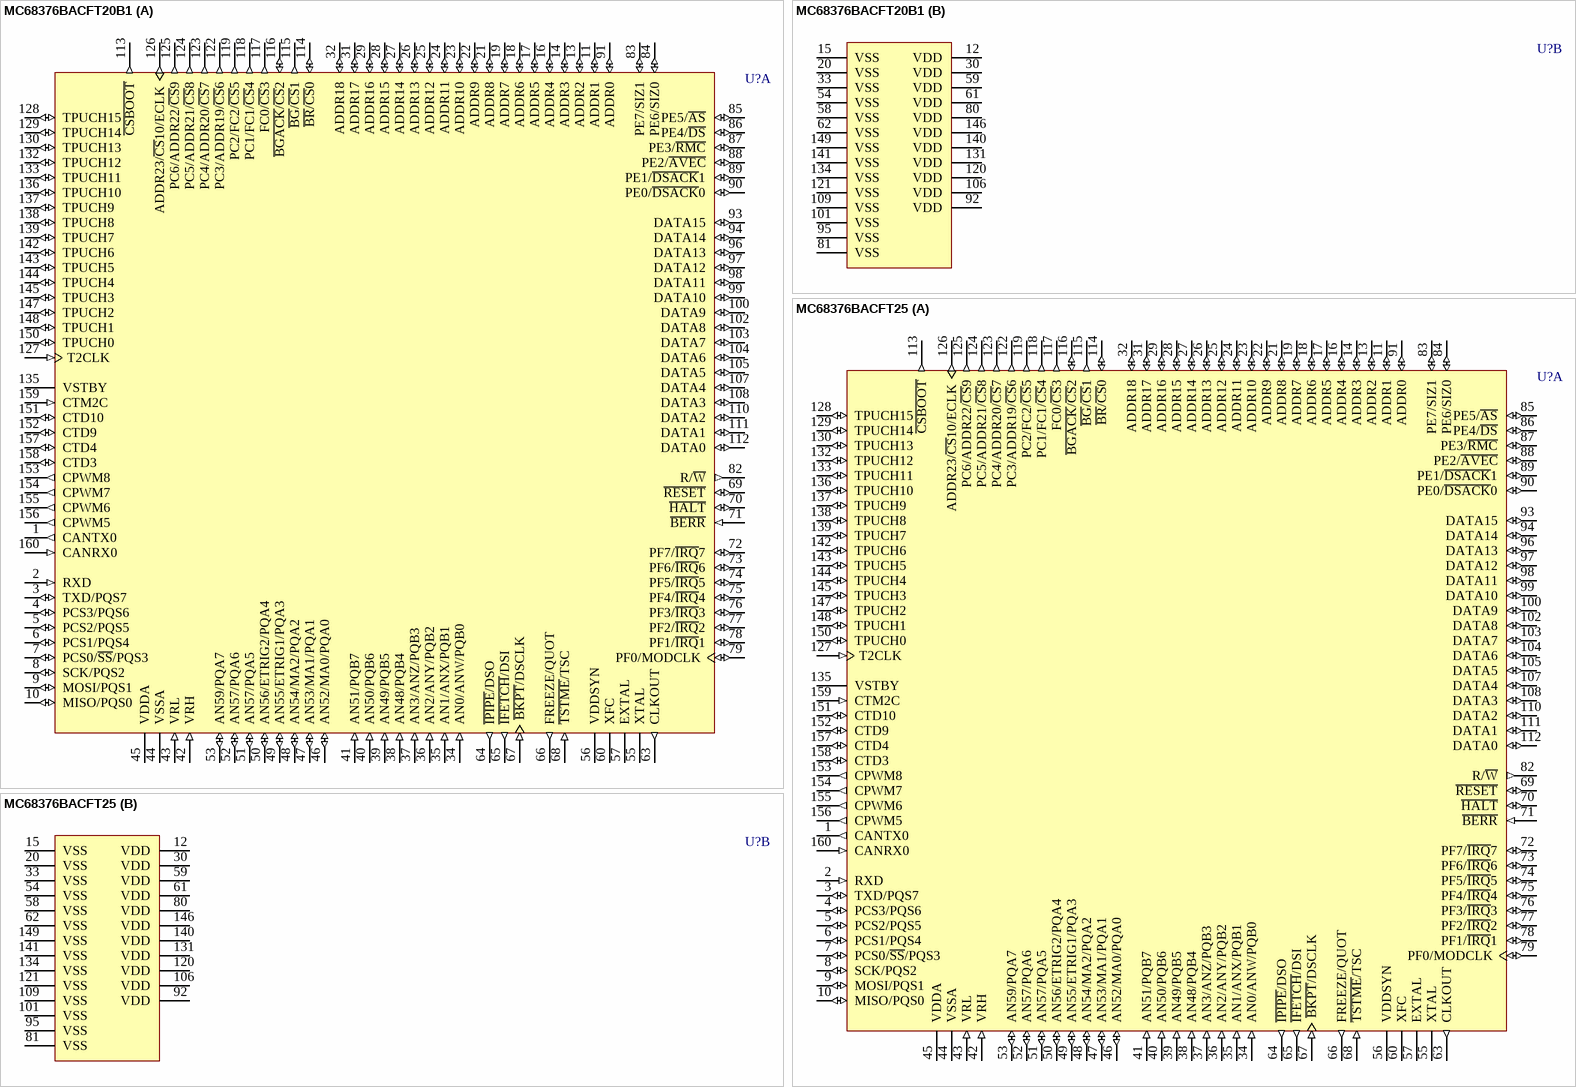
[diagram p183: symbols MC68376BACFT20B1 to MC68376BACFT25]

## MC68376BACFT20B1
designator U?
32-Bit Microcontroller; Published: 21-Mar-2003; LatestRevisionDate: 13-Apr-2006; LatestRevisionNote: IPC-7351 Footprint Added.; DatasheetVersion: 15-Oct-2000; PackageVersion: 1996; PackageReference: 864A-03; Publisher: Altium Limited; PackageDescription: 160-Pin Plastic Quad Flat Pack 0.65 mm Pitch; Code_IPC: QFP65P3120X3120-160; ComponentLink1Description: Manufacturer Link; ComponentLink1URL: http://www.freescale.com/; ComponentLink2Description: Datasheet; ComponentLink2URL: http://www.freescale.com/files/microcontrollers/doc/data_sheet/MC683336_376UM_ZIP.zip
footprint 864A-03_N (QFP, 160-Leads, Body 28 x 28mm, Pitch 0.65mm, IPC Medium Density)
footprint 864A-03_L (QFP, 160-Leads, Body 28 x 28mm, Pitch 0.65mm, IPC High Density)
footprint 864A-03_M (QFP, 160-Leads, Body 28 x 28mm, Pitch 0.65mm, IPC Low Density)
3D model MC68376-864A-03 (160-Pin Plastic Quad Flat Pack 0.65 mm Pitch)
part A pins: 1 CANTX0 (out), 2 RXD (in), 3 TXD/PQS7 (io), 4 PCS3/PQS6 (io), 5 PCS2/PQS5 (io), 6 PCS1/PQS4 (io), 7 PCS0/~{SS}/PQS3 (io), 8 SCK/PQS2 (io), 9 MOSI/PQS1 (io), 10 MISO/PQS0 (io), 11 ADDR1 (io), 13 ADDR2 (io), 14 ADDR3 (io), 16 ADDR4 (io), 17 ADDR5 (io), 18 ADDR6 (io), 19 ADDR7 (io), 21 ADDR8 (io), 22 ADDR9 (io), 23 ADDR10 (io), 24 ADDR11 (io), 25 ADDR12 (io), 26 ADDR13 (io), 27 ADDR14 (io), 28 ADDR15 (io), 29 ADDR16 (io), 31 ADDR17 (io), 32 ADDR18 (io), 34 AN0/ANW/PQB0 (in), 35 AN1/ANX/PQB1 (in), 36 AN2/ANY/PQB2 (in), 37 AN3/ANZ/PQB3 (in), 38 AN48/PQB4 (in), 39 AN49/PQB5 (in), 40 AN50/PQB6 (in), 41 AN51/PQB7 (in), 42 VRH (in), 43 VRL (in), 44 VSSA (power), 45 VDDA (power), 46 AN52/MA0/PQA0 (io), 47 AN53/MA1/PQA1 (io), 48 AN54/MA2/PQA2 (io), 49 AN55/ETRIG1/PQA3 (io), 50 AN56/ETRIG2/PQA4 (io), 51 AN57/PQA5 (io), 52 AN57/PQA6 (io), 53 AN59/PQA7 (io), 55 XTAL, 56 VDDSYN (power), 57 EXTAL, 60 XFC, 63 CLKOUT (out), 64 ~{IPIPE}/DSO (out), 65 ~{IFETCH}/DSI (out), 66 FREEZE/QUOT (out), 67 ~{BKPT}/DSCLK (in), 68 ~{TSTME}/TSC (in), 69 ~{RESET} (io), 70 ~{HALT} (io), 71 ~{BERR} (in), 72 PF7/~{IRQ}7 (io), 73 PF6/~{IRQ}6 (io), 74 PF5/~{IRQ}5 (io), 75 PF4/~{IRQ}4 (io), 76 PF3/~{IRQ}3 (io), 77 PF2/~{IRQ}2 (io), 78 PF1/~{IRQ}1 (io), 79 PF0/MODCLK (io), 82 R/~{W} (out), 83 PE7/SIZ1 (io), 84 PE6/SIZ0 (io), 85 PE5/~{AS} (io), 86 PE4/~{DS} (io), 87 PE3/~{RMC} (io), 88 PE2/~{AVEC} (io), 89 PE1/~{DSACK}1 (io), 90 PE0/~{DSACK}0 (io), 91 ADDR0 (io), 93 DATA15 (io), 94 DATA14 (io), 96 DATA13 (io), 97 DATA12 (io), 98 DATA11 (io), 99 DATA10 (io), 100 DATA9 (io), 102 DATA8 (io), 103 DATA7 (io), 104 DATA6 (io), 105 DATA5 (io), 107 DATA4 (io), 108 DATA3 (io), 110 DATA2 (io), 111 DATA1 (io), 112 DATA0 (io), 113 ~{CSBOOT} (out), 114 ~{BR}/~{CS}0 (io), 115 ~{BG}/~{CS}1 (out), 116 ~{BGACK}/~{CS}2 (io), 117 FC0/~{CS}3 (out), 118 PC1/FC1/~{CS}4 (out), 119 PC2/FC2/~{CS}5 (out), 122 PC3/ADDR19/~{CS}6 (out), 123 PC4/ADDR20/~{CS}7 (out), 124 PC5/ADDR21/~{CS}8 (out), 125 PC6/ADDR22/~{CS}9 (out), 126 ADDR23/~{CS}10/ECLK (out), 127 T2CLK (in), 128 TPUCH15 (io), 129 TPUCH14 (io), 130 TPUCH13 (io), 132 TPUCH12 (io), 133 TPUCH11 (io), 135 VSTBY (power), 136 TPUCH10 (io), 137 TPUCH9 (io), 138 TPUCH8 (io), 139 TPUCH7 (io), 142 TPUCH6 (io), 143 TPUCH5 (io), 144 TPUCH4 (io), 145 TPUCH3 (io), 147 TPUCH2 (io), 148 TPUCH1 (io), 150 TPUCH0 (io), 151 CTD10 (io), 152 CTD9 (io), 153 CPWM8 (out), 154 CPWM7 (out), 155 CPWM6 (out), 156 CPWM5 (out), 157 CTD4 (io), 158 CTD3 (io), 159 CTM2C (in), 160 CANRX0 (in)
part B pins: 12 VDD (power), 15 VSS (power), 20 VSS (power), 30 VDD (power), 33 VSS (power), 54 VSS (power), 58 VSS (power), 59 VDD (power), 61 VDD (power), 62 VSS (power), 80 VDD (power), 81 VSS (power), 92 VDD (power), 95 VSS (power), 101 VSS (power), 106 VDD (power), 109 VSS (power), 120 VDD (power), 121 VSS (power), 131 VDD (power), 134 VSS (power), 140 VDD (power), 141 VSS (power), 146 VDD (power), 149 VSS (power)

## MC68376BACFT25
designator U?
32-Bit Microcontroller; Published: 21-Mar-2003; LatestRevisionDate: 13-Apr-2006; LatestRevisionNote: IPC-7351 Footprint Added.; DatasheetVersion: 15-Oct-2000; PackageVersion: 1996; PackageReference: 864A-03; Publisher: Altium Limited; PackageDescription: 160-Pin Plastic Quad Flat Pack 0.65 mm Pitch; Code_IPC: QFP65P3120X3120-160; ComponentLink1Description: Manufacturer Link; ComponentLink1URL: http://www.freescale.com/; ComponentLink2Description: Datasheet; ComponentLink2URL: http://www.freescale.com/files/microcontrollers/doc/data_sheet/MC683336_376UM_ZIP.zip
footprint 864A-03_N (QFP, 160-Leads, Body 28 x 28mm, Pitch 0.65mm, IPC Medium Density)
footprint 864A-03_L (QFP, 160-Leads, Body 28 x 28mm, Pitch 0.65mm, IPC High Density)
footprint 864A-03_M (QFP, 160-Leads, Body 28 x 28mm, Pitch 0.65mm, IPC Low Density)
3D model MC68376-864A-03 (160-Pin Plastic Quad Flat Pack 0.65 mm Pitch)
part A pins: 1 CANTX0 (out), 2 RXD (in), 3 TXD/PQS7 (io), 4 PCS3/PQS6 (io), 5 PCS2/PQS5 (io), 6 PCS1/PQS4 (io), 7 PCS0/~{SS}/PQS3 (io), 8 SCK/PQS2 (io), 9 MOSI/PQS1 (io), 10 MISO/PQS0 (io), 11 ADDR1 (io), 13 ADDR2 (io), 14 ADDR3 (io), 16 ADDR4 (io), 17 ADDR5 (io), 18 ADDR6 (io), 19 ADDR7 (io), 21 ADDR8 (io), 22 ADDR9 (io), 23 ADDR10 (io), 24 ADDR11 (io), 25 ADDR12 (io), 26 ADDR13 (io), 27 ADDR14 (io), 28 ADDR15 (io), 29 ADDR16 (io), 31 ADDR17 (io), 32 ADDR18 (io), 34 AN0/ANW/PQB0 (in), 35 AN1/ANX/PQB1 (in), 36 AN2/ANY/PQB2 (in), 37 AN3/ANZ/PQB3 (in), 38 AN48/PQB4 (in), 39 AN49/PQB5 (in), 40 AN50/PQB6 (in), 41 AN51/PQB7 (in), 42 VRH (in), 43 VRL (in), 44 VSSA (power), 45 VDDA (power), 46 AN52/MA0/PQA0 (io), 47 AN53/MA1/PQA1 (io), 48 AN54/MA2/PQA2 (io), 49 AN55/ETRIG1/PQA3 (io), 50 AN56/ETRIG2/PQA4 (io), 51 AN57/PQA5 (io), 52 AN57/PQA6 (io), 53 AN59/PQA7 (io), 55 XTAL, 56 VDDSYN (power), 57 EXTAL, 60 XFC, 63 CLKOUT (out), 64 ~{IPIPE}/DSO (out), 65 ~{IFETCH}/DSI (out), 66 FREEZE/QUOT (out), 67 ~{BKPT}/DSCLK (in), 68 ~{TSTME}/TSC (in), 69 ~{RESET} (io), 70 ~{HALT} (io), 71 ~{BERR} (in), 72 PF7/~{IRQ}7 (io), 73 PF6/~{IRQ}6 (io), 74 PF5/~{IRQ}5 (io), 75 PF4/~{IRQ}4 (io), 76 PF3/~{IRQ}3 (io), 77 PF2/~{IRQ}2 (io), 78 PF1/~{IRQ}1 (io), 79 PF0/MODCLK (io), 82 R/~{W} (out), 83 PE7/SIZ1 (io), 84 PE6/SIZ0 (io), 85 PE5/~{AS} (io), 86 PE4/~{DS} (io), 87 PE3/~{RMC} (io), 88 PE2/~{AVEC} (io), 89 PE1/~{DSACK}1 (io), 90 PE0/~{DSACK}0 (io), 91 ADDR0 (io), 93 DATA15 (io), 94 DATA14 (io), 96 DATA13 (io), 97 DATA12 (io), 98 DATA11 (io), 99 DATA10 (io), 100 DATA9 (io), 102 DATA8 (io), 103 DATA7 (io), 104 DATA6 (io), 105 DATA5 (io), 107 DATA4 (io), 108 DATA3 (io), 110 DATA2 (io), 111 DATA1 (io), 112 DATA0 (io), 113 ~{CSBOOT} (out), 114 ~{BR}/~{CS}0 (io), 115 ~{BG}/~{CS}1 (out), 116 ~{BGACK}/~{CS}2 (io), 117 FC0/~{CS}3 (out), 118 PC1/FC1/~{CS}4 (out), 119 PC2/FC2/~{CS}5 (out), 122 PC3/ADDR19/~{CS}6 (out), 123 PC4/ADDR20/~{CS}7 (out), 124 PC5/ADDR21/~{CS}8 (out), 125 PC6/ADDR22/~{CS}9 (out), 126 ADDR23/~{CS}10/ECLK (out), 127 T2CLK (in), 128 TPUCH15 (io), 129 TPUCH14 (io), 130 TPUCH13 (io), 132 TPUCH12 (io), 133 TPUCH11 (io), 135 VSTBY (power), 136 TPUCH10 (io), 137 TPUCH9 (io), 138 TPUCH8 (io), 139 TPUCH7 (io), 142 TPUCH6 (io), 143 TPUCH5 (io), 144 TPUCH4 (io), 145 TPUCH3 (io), 147 TPUCH2 (io), 148 TPUCH1 (io), 150 TPUCH0 (io), 151 CTD10 (io), 152 CTD9 (io), 153 CPWM8 (out), 154 CPWM7 (out), 155 CPWM6 (out), 156 CPWM5 (out), 157 CTD4 (io), 158 CTD3 (io), 159 CTM2C (in), 160 CANRX0 (in)
part B pins: 12 VDD (power), 15 VSS (power), 20 VSS (power), 30 VDD (power), 33 VSS (power), 54 VSS (power), 58 VSS (power), 59 VDD (power), 61 VDD (power), 62 VSS (power), 80 VDD (power), 81 VSS (power), 92 VDD (power), 95 VSS (power), 101 VSS (power), 106 VDD (power), 109 VSS (power), 120 VDD (power), 121 VSS (power), 131 VDD (power), 134 VSS (power), 140 VDD (power), 141 VSS (power), 146 VDD (power), 149 VSS (power)

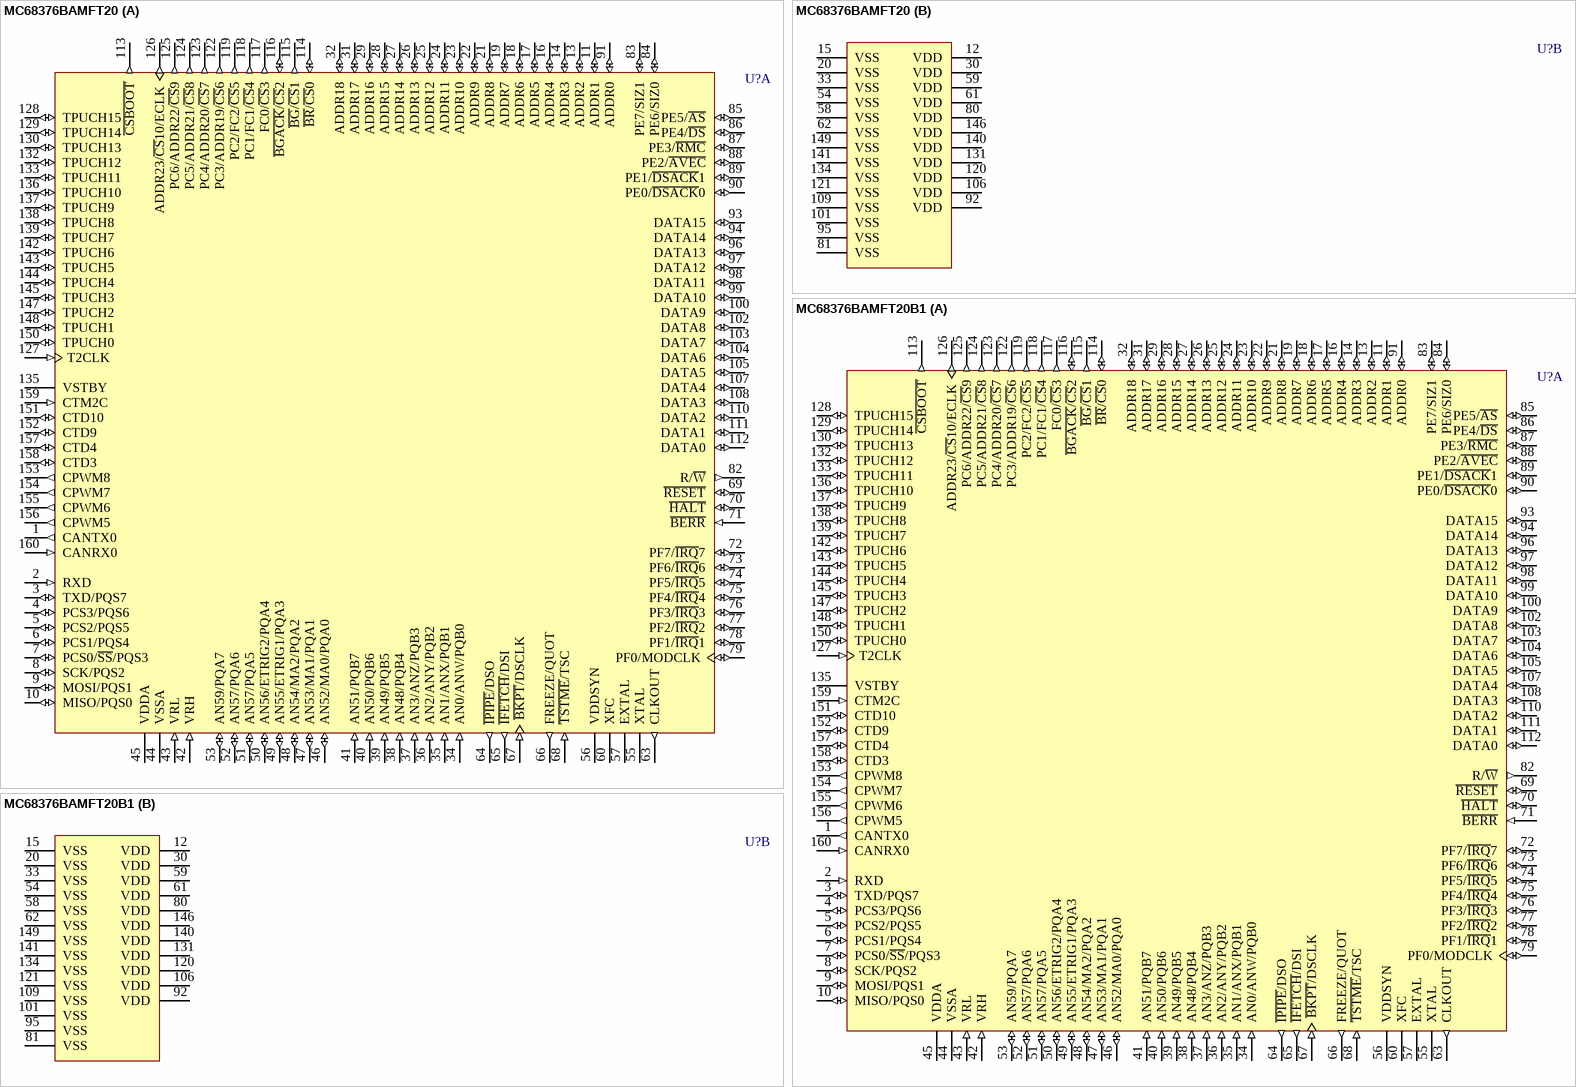
[diagram p184: symbols MC68376BAMFT20 to MC68376BAMFT20B1]